# Altium schematic symbol library Atmel_By_element14_Batch_1-00.SCHLIB: 346 symbols (part 2 of 5)
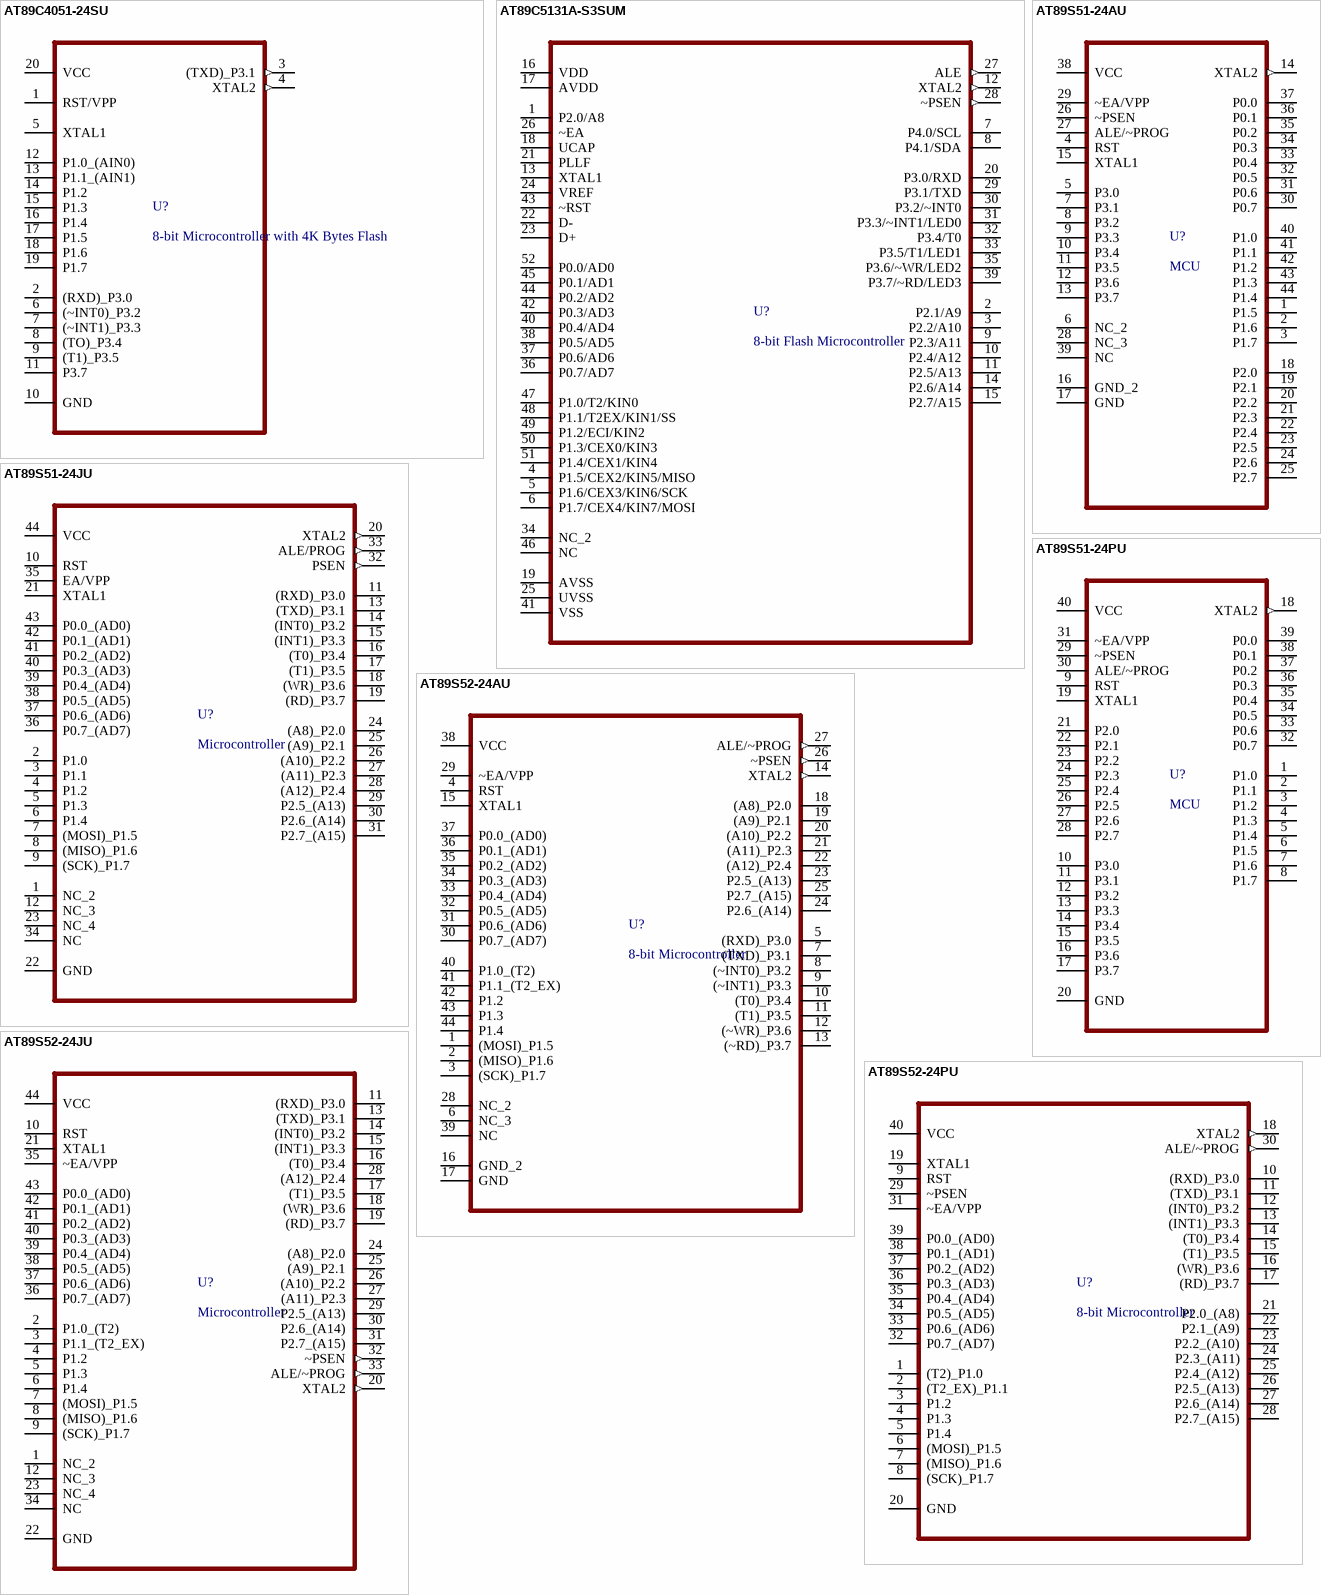
[diagram p47: symbols AT89C4051-24SU to AT89S52-24PU]

## AT89S52-24PU
designator U?, comment 8-bit Microcontroller
MPN: AT89S52-24PU; OC_FARNELL: 1095743; OC_NEWARK: 96K6580; PACKAGE: DIP-40; SUPPLIER: Atmel
footprint DIP254P1524X482-40
pins: 1 (T2)_P1.0, 2 (T2_EX)_P1.1, 3 P1.2, 4 P1.3, 5 P1.4, 6 (MOSI)_P1.5, 7 (MISO)_P1.6, 8 (SCK)_P1.7, 9 RST, 10 (RXD)_P3.0, 11 (TXD)_P3.1, 12 (INT0)_P3.2, 13 (INT1)_P3.3, 14 (T0)_P3.4, 15 (T1)_P3.5, 16 (WR)_P3.6, 17 (RD)_P3.7, 18 XTAL2 (out), 19 XTAL1, 20 GND, 21 P2.0_(A8), 22 P2.1_(A9), 23 P2.2_(A10), 24 P2.3_(A11), 25 P2.4_(A12), 26 P2.5_(A13), 27 P2.6_(A14), 28 P2.7_(A15), 29 ~PSEN, 30 ALE/~PROG (out), 31 ~EA/VPP, 32 P0.7_(AD7), 33 P0.6_(AD6), 34 P0.5_(AD5), 35 P0.4_(AD4), 36 P0.3_(AD3), 37 P0.2_(AD2), 38 P0.1_(AD1), 39 P0.0_(AD0), 40 VCC (power)

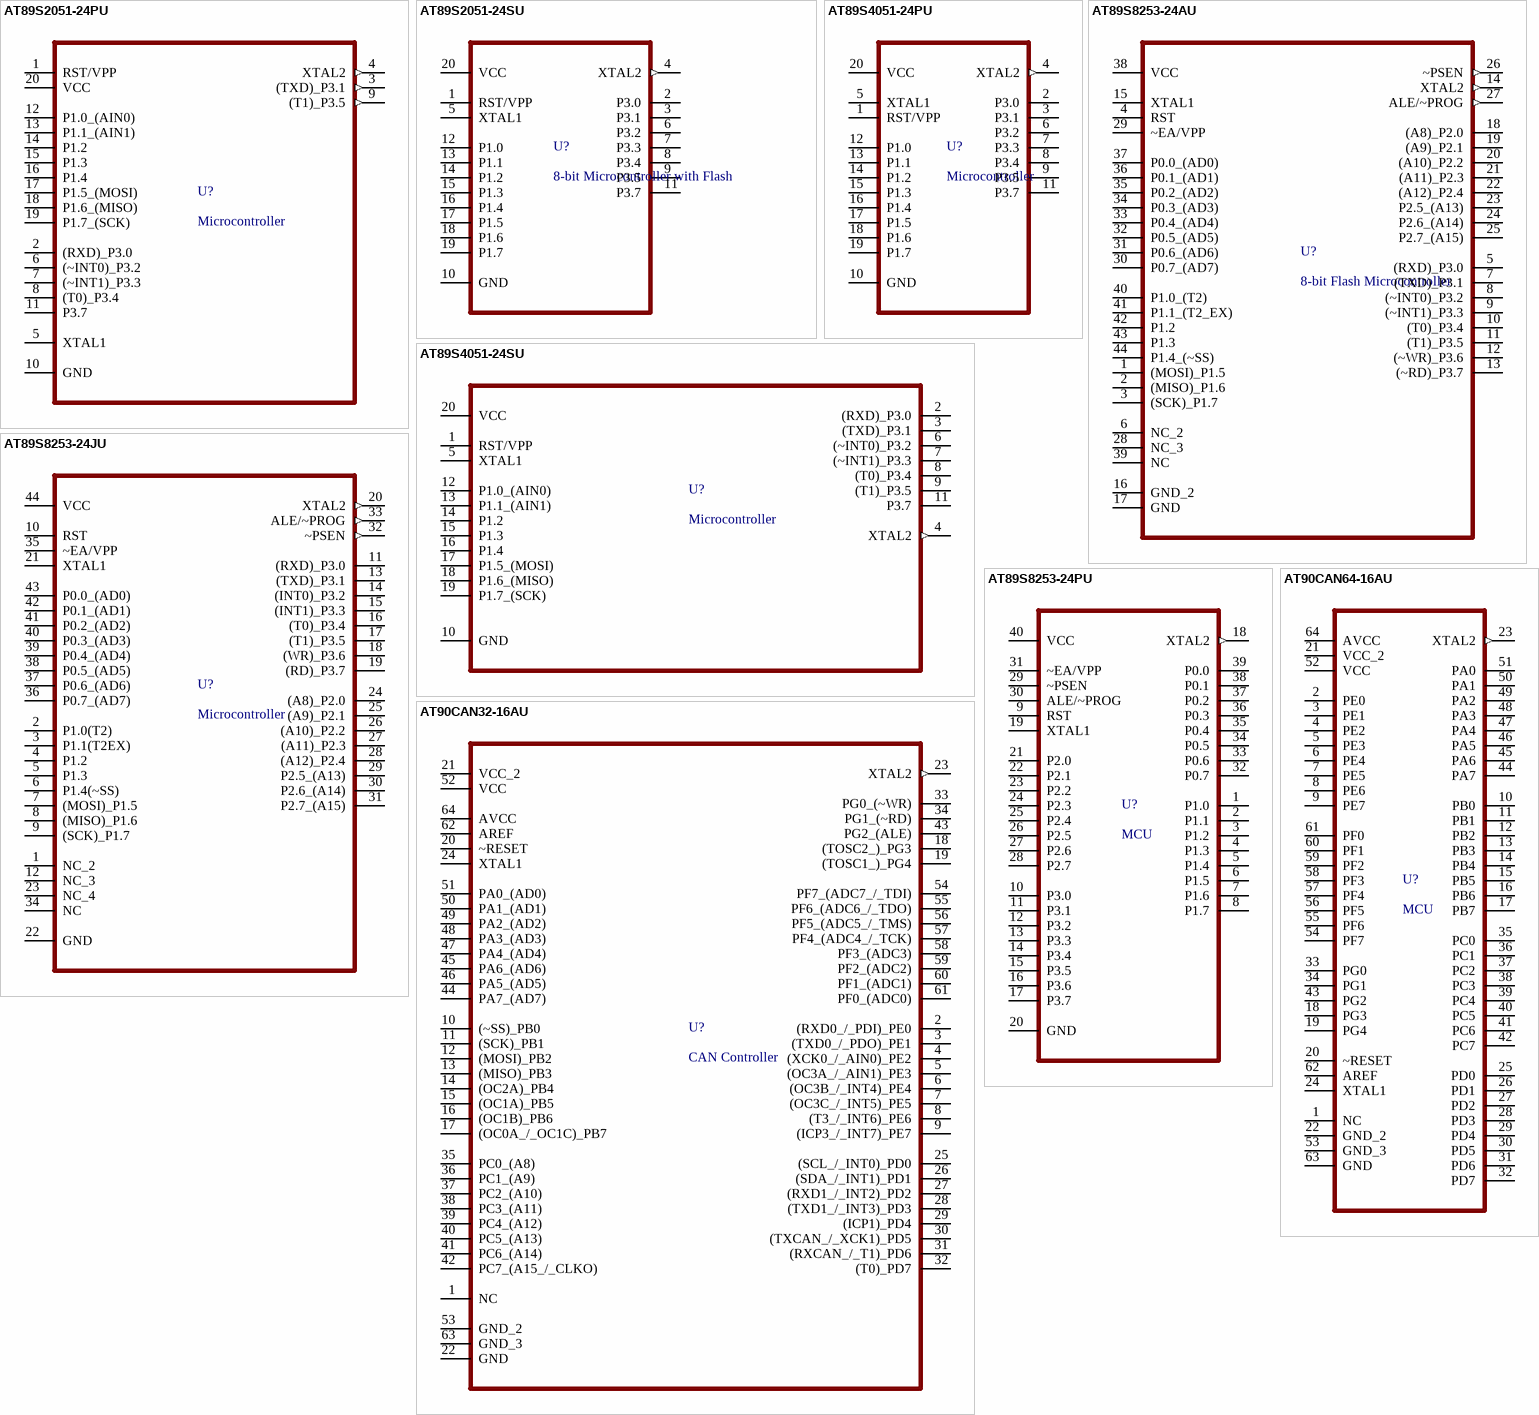
[diagram p9: symbols AT89S2051-24PU to AT90CAN64-16AU]

## AT89S2051-24PU
designator U?, comment Microcontroller
MPN: AT89S2051-24PU; OC_FARNELL: 1095734; OC_NEWARK: 96K6573; PACKAGE: PDIP-20; SUPPLIER: ATMEL
footprint DIP254P762X533-20
pins: 1 RST/VPP (power), 2 (RXD)_P3.0, 3 (TXD)_P3.1 (out), 4 XTAL2 (out), 5 XTAL1, 6 (~INT0)_P3.2, 7 (~INT1)_P3.3, 8 (T0)_P3.4, 9 (T1)_P3.5 (out), 10 GND, 11 P3.7, 12 P1.0_(AIN0), 13 P1.1_(AIN1), 14 P1.2, 15 P1.3, 16 P1.4, 17 P1.5_(MOSI), 18 P1.6_(MISO), 19 P1.7_(SCK), 20 VCC (power)

## AT89S2051-24SU
designator U?, comment 8-bit Microcontroller with Flash
MPN: AT89S2051-24SU; OC_FARNELL: 1095735; OC_NEWARK: 96K6574; PACKAGE: SOIC-20; SUPPLIER: Atmel
footprint SOIC127P1032X265-20N
pins: 1 RST/VPP, 2 P3.0, 3 P3.1, 4 XTAL2 (out), 5 XTAL1, 6 P3.2, 7 P3.3, 8 P3.4, 9 P3.5, 10 GND, 11 P3.7, 12 P1.0, 13 P1.1, 14 P1.2, 15 P1.3, 16 P1.4, 17 P1.5, 18 P1.6, 19 P1.7, 20 VCC (power)

## AT89S4051-24PU
designator U?, comment Microcontroller
MPN: AT89S4051-24PU; OC_FARNELL: 1095736; OC_NEWARK: 96K6575; PACKAGE: DIP-20; SUPPLIER: ATMEL
footprint DIP254P762X533-20
pins: 1 RST/VPP, 2 P3.0, 3 P3.1, 4 XTAL2 (out), 5 XTAL1, 6 P3.2, 7 P3.3, 8 P3.4, 9 P3.5, 10 GND, 11 P3.7, 12 P1.0, 13 P1.1, 14 P1.2, 15 P1.3, 16 P1.4, 17 P1.5, 18 P1.6, 19 P1.7, 20 VCC (power)

## AT89S4051-24SU
designator U?, comment Microcontroller
MPN: AT89S4051-24SU; OC_FARNELL: 1095737; OC_NEWARK: 96K6576; PACKAGE: SOIC-20; SUPPLIER: ATMEL
footprint SOIC127P1032X265-20N
pins: 1 RST/VPP (power), 2 (RXD)_P3.0, 3 (TXD)_P3.1, 4 XTAL2 (out), 5 XTAL1, 6 (~INT0)_P3.2, 7 (~INT1)_P3.3, 8 (T0)_P3.4, 9 (T1)_P3.5, 10 GND, 11 P3.7, 12 P1.0_(AIN0), 13 P1.1_(AIN1), 14 P1.2, 15 P1.3, 16 P1.4, 17 P1.5_(MOSI), 18 P1.6_(MISO), 19 P1.7_(SCK), 20 VCC (power)

## AT89S8253-24AU
designator U?, comment 8-bit Flash Microcontroller
MPN: AT89S8253-24AU; OC_FARNELL: 1095744; OC_NEWARK: 74K4052; PACKAGE: VQFP-44; SUPPLIER: ATMEL
footprint QFP80P1200X1200X120-44N
pins: 1 (MOSI)_P1.5, 2 (MISO)_P1.6, 3 (SCK)_P1.7, 4 RST, 5 (RXD)_P3.0, 6 NC_2, 7 (TXD)_P3.1, 8 (~INT0)_P3.2, 9 (~INT1)_P3.3, 10 (T0)_P3.4, 11 (T1)_P3.5, 12 (~WR)_P3.6, 13 (~RD)_P3.7, 14 XTAL2 (out), 15 XTAL1, 16 GND_2, 17 GND, 18 (A8)_P2.0, 19 (A9)_P2.1, 20 (A10)_P2.2, 21 (A11)_P2.3, 22 (A12)_P2.4, 23 P2.5_(A13), 24 P2.6_(A14), 25 P2.7_(A15), 26 ~PSEN (out), 27 ALE/~PROG (out), 28 NC_3, 29 ~EA/VPP, 30 P0.7_(AD7), 31 P0.6_(AD6), 32 P0.5_(AD5), 33 P0.4_(AD4), 34 P0.3_(AD3), 35 P0.2_(AD2), 36 P0.1_(AD1), 37 P0.0_(AD0), 38 VCC (power), 39 NC, 40 P1.0_(T2), 41 P1.1_(T2_EX), 42 P1.2, 43 P1.3, 44 P1.4_(~SS)

## AT89S8253-24JU
designator U?, comment Microcontroller
MPN: AT89S8253-24JU; OC_FARNELL: 1095745; OC_NEWARK: 96K6581; PACKAGE: PLCC-44; SUPPLIER: ATMEL
footprint PLCC127P1752X1752X457-44N
pins: 1 NC_2, 2 P1.0(T2), 3 P1.1(T2EX), 4 P1.2, 5 P1.3, 6 P1.4(~SS), 7 (MOSI)_P1.5, 8 (MISO)_P1.6, 9 (SCK)_P1.7, 10 RST, 11 (RXD)_P3.0, 12 NC_3, 13 (TXD)_P3.1, 14 (INT0)_P3.2, 15 (INT1)_P3.3, 16 (T0)_P3.4, 17 (T1)_P3.5, 18 (WR)_P3.6, 19 (RD)_P3.7, 20 XTAL2 (out), 21 XTAL1, 22 GND, 23 NC_4, 24 (A8)_P2.0, 25 (A9)_P2.1, 26 (A10)_P2.2, 27 (A11)_P2.3, 28 (A12)_P2.4, 29 P2.5_(A13), 30 P2.6_(A14), 31 P2.7_(A15), 32 ~PSEN (out), 33 ALE/~PROG (out), 34 NC, 35 ~EA/VPP, 36 P0.7_(AD7), 37 P0.6_(AD6), 38 P0.5_(AD5), 39 P0.4_(AD4), 40 P0.3_(AD3), 41 P0.2_(AD2), 42 P0.1_(AD1), 43 P0.0_(AD0), 44 VCC (power)

## AT89S8253-24PU
designator U?, comment MCU
MPN: AT89S8253-24PU; OC_FARNELL: 1095746; OC_NEWARK: 96K6582; PACKAGE: DIP-40; SUPPLIER: Atmel
footprint DIP254P1524X482-40
pins: 1 P1.0, 2 P1.1, 3 P1.2, 4 P1.3, 5 P1.4, 6 P1.5, 7 P1.6, 8 P1.7, 9 RST, 10 P3.0, 11 P3.1, 12 P3.2, 13 P3.3, 14 P3.4, 15 P3.5, 16 P3.6, 17 P3.7, 18 XTAL2 (out), 19 XTAL1, 20 GND, 21 P2.0, 22 P2.1, 23 P2.2, 24 P2.3, 25 P2.4, 26 P2.5, 27 P2.6, 28 P2.7, 29 ~PSEN, 30 ALE/~PROG, 31 ~EA/VPP, 32 P0.7, 33 P0.6, 34 P0.5, 35 P0.4, 36 P0.3, 37 P0.2, 38 P0.1, 39 P0.0, 40 VCC (power)

## AT90CAN32-16AU
designator U?, comment CAN Controller
MPN: AT90CAN32-16AU; OC_FARNELL: 1455066; OC_NEWARK: 58M3861; PACKAGE: TQFP-64; SUPPLIER: Atmel
footprint QFP80P1600X1600X120-64N
pins: 1 NC, 2 (RXD0_/_PDI)_PE0, 3 (TXD0_/_PDO)_PE1, 4 (XCK0_/_AIN0)_PE2, 5 (OC3A_/_AIN1)_PE3, 6 (OC3B_/_INT4)_PE4, 7 (OC3C_/_INT5)_PE5, 8 (T3_/_INT6)_PE6, 9 (ICP3_/_INT7)_PE7, 10 (~SS)_PB0, 11 (SCK)_PB1, 12 (MOSI)_PB2, 13 (MISO)_PB3, 14 (OC2A)_PB4, 15 (OC1A)_PB5, 16 (OC1B)_PB6, 17 (OC0A_/_OC1C)_PB7, 18 (TOSC2_)_PG3, 19 (TOSC1_)_PG4, 20 ~RESET, 21 VCC_2 (power), 22 GND, 23 XTAL2 (out), 24 XTAL1, 25 (SCL_/_INT0)_PD0, 26 (SDA_/_INT1)_PD1, 27 (RXD1_/_INT2)_PD2, 28 (TXD1_/_INT3)_PD3, 29 (ICP1)_PD4, 30 (TXCAN_/_XCK1)_PD5, 31 (RXCAN_/_T1)_PD6, 32 (T0)_PD7, 33 PG0_(~WR), 34 PG1_(~RD), 35 PC0_(A8), 36 PC1_(A9), 37 PC2_(A10), 38 PC3_(A11), 39 PC4_(A12), 40 PC5_(A13), 41 PC6_(A14), 42 PC7_(A15_/_CLKO), 43 PG2_(ALE), 44 PA7_(AD7), 45 PA6_(AD6), 46 PA5_(AD5), 47 PA4_(AD4), 48 PA3_(AD3), 49 PA2_(AD2), 50 PA1_(AD1), 51 PA0_(AD0), 52 VCC (power), 53 GND_2, 54 PF7_(ADC7_/_TDI), 55 PF6_(ADC6_/_TDO), 56 PF5_(ADC5_/_TMS), 57 PF4_(ADC4_/_TCK), 58 PF3_(ADC3), 59 PF2_(ADC2), 60 PF1_(ADC1), 61 PF0_(ADC0), 62 AREF, 63 GND_3, 64 AVCC (power)

## AT90CAN64-16AU
designator U?, comment MCU
MPN: AT90CAN64-16AU; OC_FARNELL: 1455067; OC_NEWARK: 58M3862; PACKAGE: QFP-64; SUPPLIER: Atmel
footprint QFP80P1600X1600X120-64N
pins: 1 NC, 2 PE0, 3 PE1, 4 PE2, 5 PE3, 6 PE4, 7 PE5, 8 PE6, 9 PE7, 10 PB0, 11 PB1, 12 PB2, 13 PB3, 14 PB4, 15 PB5, 16 PB6, 17 PB7, 18 PG3, 19 PG4, 20 ~RESET, 21 VCC_2 (power), 22 GND_2, 23 XTAL2 (out), 24 XTAL1, 25 PD0, 26 PD1, 27 PD2, 28 PD3, 29 PD4, 30 PD5, 31 PD6, 32 PD7, 33 PG0, 34 PG1, 35 PC0, 36 PC1, 37 PC2, 38 PC3, 39 PC4, 40 PC5, 41 PC6, 42 PC7, 43 PG2, 44 PA7, 45 PA6, 46 PA5, 47 PA4, 48 PA3, 49 PA2, 50 PA1, 51 PA0, 52 VCC (power), 53 GND_3, 54 PF7, 55 PF6, 56 PF5, 57 PF4, 58 PF3, 59 PF2, 60 PF1, 61 PF0, 62 AREF, 63 GND, 64 AVCC (power)

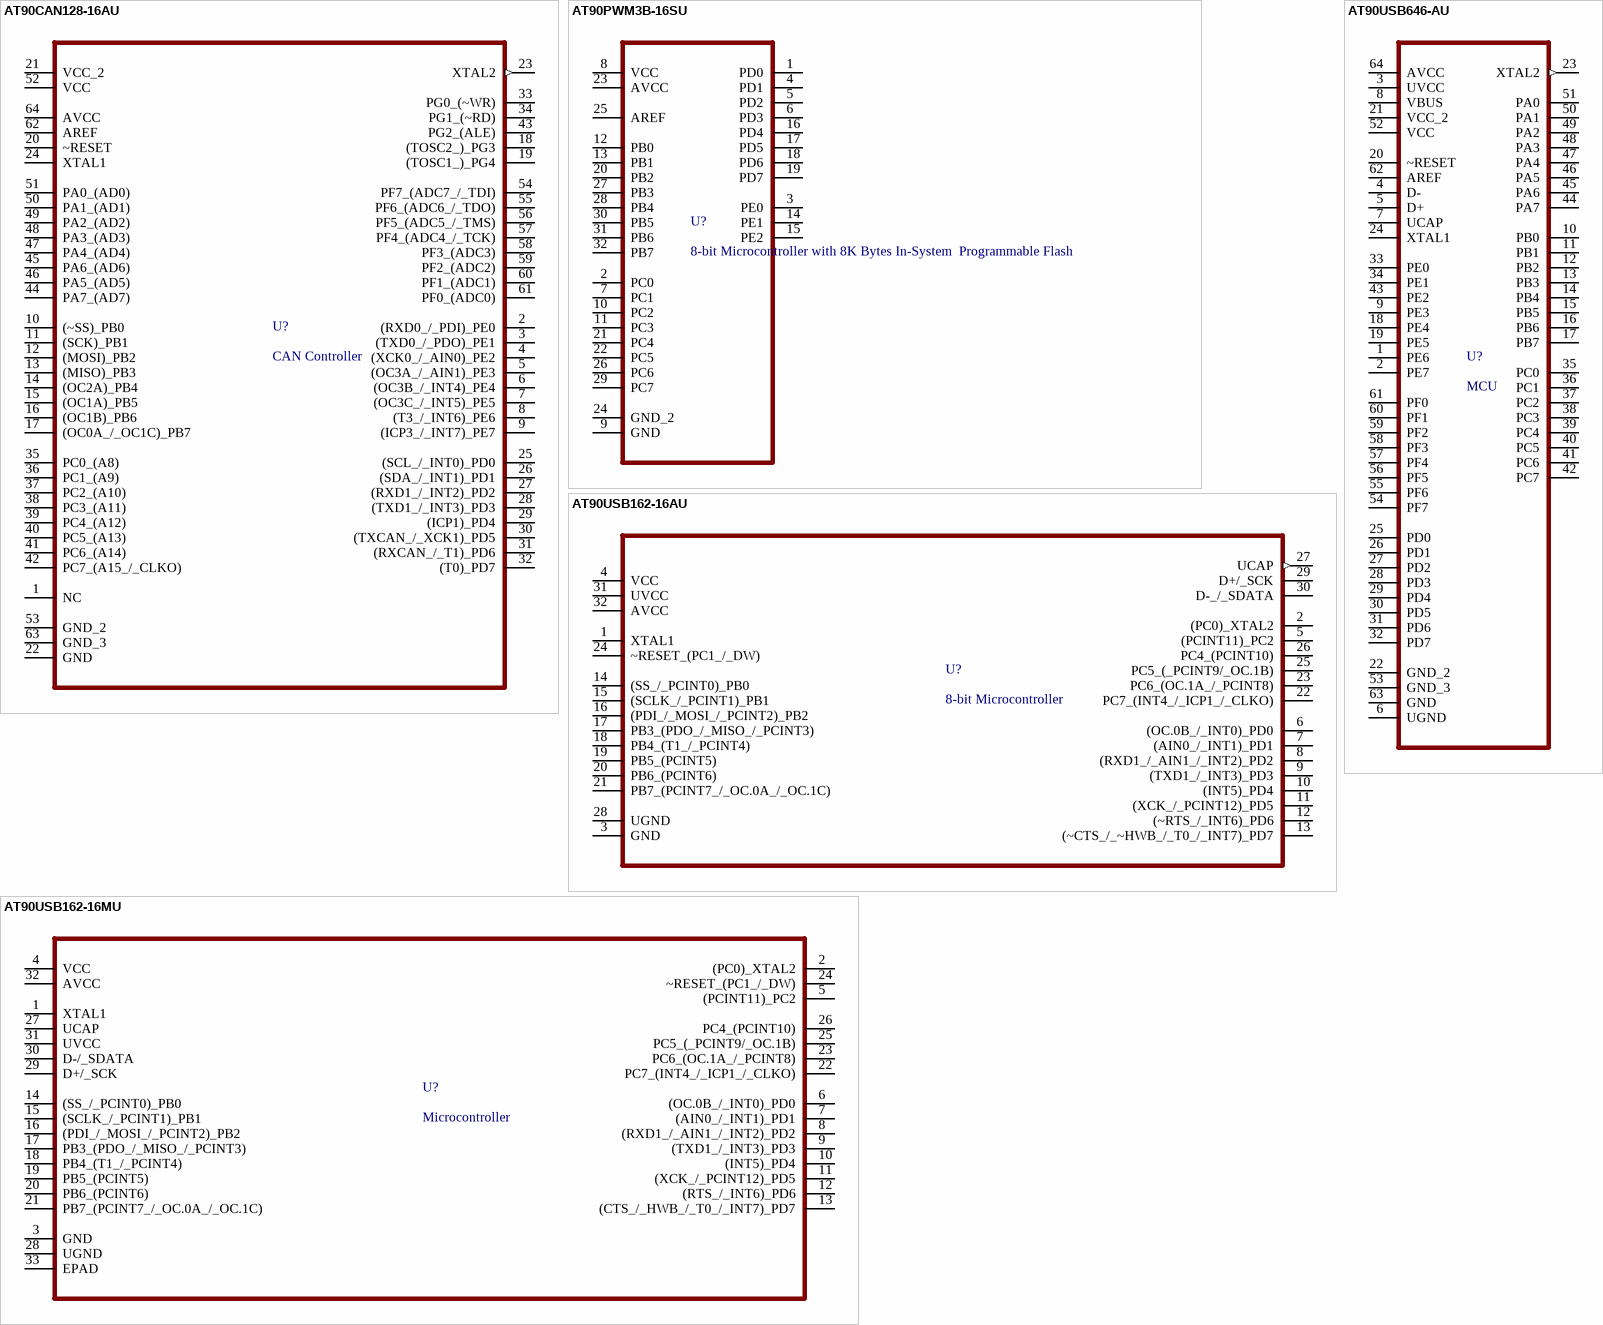
[diagram p10: symbols AT90CAN128-16AU to AT90USB646-AU]

## AT90CAN128-16AU
designator U?, comment CAN Controller
MPN: AT90CAN128-16AU; OC_FARNELL: 1455065; OC_NEWARK: 58M3860; PACKAGE: TQFP-64; SUPPLIER: Atmel
footprint QFP80P1600X1600X120-64N
pins: 1 NC, 2 (RXD0_/_PDI)_PE0, 3 (TXD0_/_PDO)_PE1, 4 (XCK0_/_AIN0)_PE2, 5 (OC3A_/_AIN1)_PE3, 6 (OC3B_/_INT4)_PE4, 7 (OC3C_/_INT5)_PE5, 8 (T3_/_INT6)_PE6, 9 (ICP3_/_INT7)_PE7, 10 (~SS)_PB0, 11 (SCK)_PB1, 12 (MOSI)_PB2, 13 (MISO)_PB3, 14 (OC2A)_PB4, 15 (OC1A)_PB5, 16 (OC1B)_PB6, 17 (OC0A_/_OC1C)_PB7, 18 (TOSC2_)_PG3, 19 (TOSC1_)_PG4, 20 ~RESET, 21 VCC_2 (power), 22 GND, 23 XTAL2 (out), 24 XTAL1, 25 (SCL_/_INT0)_PD0, 26 (SDA_/_INT1)_PD1, 27 (RXD1_/_INT2)_PD2, 28 (TXD1_/_INT3)_PD3, 29 (ICP1)_PD4, 30 (TXCAN_/_XCK1)_PD5, 31 (RXCAN_/_T1)_PD6, 32 (T0)_PD7, 33 PG0_(~WR), 34 PG1_(~RD), 35 PC0_(A8), 36 PC1_(A9), 37 PC2_(A10), 38 PC3_(A11), 39 PC4_(A12), 40 PC5_(A13), 41 PC6_(A14), 42 PC7_(A15_/_CLKO), 43 PG2_(ALE), 44 PA7_(AD7), 45 PA6_(AD6), 46 PA5_(AD5), 47 PA4_(AD4), 48 PA3_(AD3), 49 PA2_(AD2), 50 PA1_(AD1), 51 PA0_(AD0), 52 VCC (power), 53 GND_2, 54 PF7_(ADC7_/_TDI), 55 PF6_(ADC6_/_TDO), 56 PF5_(ADC5_/_TMS), 57 PF4_(ADC4_/_TCK), 58 PF3_(ADC3), 59 PF2_(ADC2), 60 PF1_(ADC1), 61 PF0_(ADC0), 62 AREF, 63 GND_3, 64 AVCC (power)

## AT90PWM3B-16SU
designator U?, comment 8-bit Microcontroller with 8K Bytes In-System  Programmable Flash
MPN: AT90PWM3B-16SU; OC_FARNELL: 1455069; OC_NEWARK: 58M3864; PACKAGE: SOIC-32; SUPPLIER: Atmel
footprint SOIC127P1047X254-32N
pins: 1 PD0, 2 PC0, 3 PE0, 4 PD1, 5 PD2, 6 PD3, 7 PC1, 8 VCC (power), 9 GND, 10 PC2, 11 PC3, 12 PB0, 13 PB1, 14 PE1, 15 PE2, 16 PD4, 17 PD5, 18 PD6, 19 PD7, 20 PB2, 21 PC4, 22 PC5, 23 AVCC (power), 24 GND_2, 25 AREF, 26 PC6, 27 PB3, 28 PB4, 29 PC7, 30 PB5, 31 PB6, 32 PB7

## AT90USB162-16AU
designator U?, comment 8-bit Microcontroller
MPN: AT90USB162-16AU; OC_FARNELL: 1455073; OC_NEWARK: 58M3868; PACKAGE: TQFP-32; SUPPLIER: Atmel
footprint QFP80P900X900X120-32N
pins: 1 XTAL1, 2 (PC0)_XTAL2, 3 GND, 4 VCC (power), 5 (PCINT11)_PC2, 6 (OC.0B_/_INT0)_PD0, 7 (AIN0_/_INT1)_PD1, 8 (RXD1_/_AIN1_/_INT2)_PD2, 9 (TXD1_/_INT3)_PD3, 10 (INT5)_PD4, 11 (XCK_/_PCINT12)_PD5, 12 (~RTS_/_INT6)_PD6, 13 (~CTS_/_~HWB_/_T0_/_INT7)_PD7, 14 (SS_/_PCINT0)_PB0, 15 (SCLK_/_PCINT1)_PB1, 16 (PDI_/_MOSI_/_PCINT2)_PB2, 17 PB3_(PDO_/_MISO_/_PCINT3), 18 PB4_(T1_/_PCINT4), 19 PB5_(PCINT5), 20 PB6_(PCINT6), 21 PB7_(PCINT7_/_OC.0A_/_OC.1C), 22 PC7_(INT4_/_ICP1_/_CLKO), 23 PC6_(OC.1A_/_PCINT8), 24 ~RESET_(PC1_/_DW), 25 PC5_(_PCINT9/_OC.1B), 26 PC4_(PCINT10), 27 UCAP (out), 28 UGND, 29 D+/_SCK, 30 D-_/_SDATA, 31 UVCC (power), 32 AVCC (power)

## AT90USB162-16MU
designator U?, comment Microcontroller
MPN: AT90USB162-16MU; OC_FARNELL: 1455074; OC_NEWARK: 58M3869; PACKAGE: QFN-32; SUPPLIER: ATMEL
footprint QFN50P500X500X100-32N
pins: 1 XTAL1, 2 (PC0)_XTAL2, 3 GND, 4 VCC (power), 5 (PCINT11)_PC2, 6 (OC.0B_/_INT0)_PD0, 7 (AIN0_/_INT1)_PD1, 8 (RXD1_/_AIN1_/_INT2)_PD2, 9 (TXD1_/_INT3)_PD3, 10 (INT5)_PD4, 11 (XCK_/_PCINT12)_PD5, 12 (RTS_/_INT6)_PD6, 13 (CTS_/_HWB_/_T0_/_INT7)_PD7, 14 (SS_/_PCINT0)_PB0, 15 (SCLK_/_PCINT1)_PB1, 16 (PDI_/_MOSI_/_PCINT2)_PB2, 17 PB3_(PDO_/_MISO_/_PCINT3), 18 PB4_(T1_/_PCINT4), 19 PB5_(PCINT5), 20 PB6_(PCINT6), 21 PB7_(PCINT7_/_OC.0A_/_OC.1C), 22 PC7_(INT4_/_ICP1_/_CLKO), 23 PC6_(OC.1A_/_PCINT8), 24 ~RESET_(PC1_/_DW), 25 PC5_(_PCINT9/_OC.1B), 26 PC4_(PCINT10), 27 UCAP, 28 UGND, 29 D+/_SCK, 30 D-/_SDATA, 31 UVCC (power), 32 AVCC (power), 33 EPAD

## AT90USB646-AU
designator U?, comment MCU
MPN: AT90USB646-AU; OC_FARNELL: 1748497; OC_NEWARK: 26R5677; PACKAGE: QFP-64; SUPPLIER: Atmel
footprint QFP80P1600X1600X120-64N
pins: 1 PE6, 2 PE7, 3 UVCC (power), 4 D-, 5 D+, 6 UGND, 7 UCAP, 8 VBUS (power), 9 PE3, 10 PB0, 11 PB1, 12 PB2, 13 PB3, 14 PB4, 15 PB5, 16 PB6, 17 PB7, 18 PE4, 19 PE5, 20 ~RESET, 21 VCC_2 (power), 22 GND_2, 23 XTAL2 (out), 24 XTAL1, 25 PD0, 26 PD1, 27 PD2, 28 PD3, 29 PD4, 30 PD5, 31 PD6, 32 PD7, 33 PE0, 34 PE1, 35 PC0, 36 PC1, 37 PC2, 38 PC3, 39 PC4, 40 PC5, 41 PC6, 42 PC7, 43 PE2, 44 PA7, 45 PA6, 46 PA5, 47 PA4, 48 PA3, 49 PA2, 50 PA1, 51 PA0, 52 VCC (power), 53 GND_3, 54 PF7, 55 PF6, 56 PF5, 57 PF4, 58 PF3, 59 PF2, 60 PF1, 61 PF0, 62 AREF, 63 GND, 64 AVCC (power)

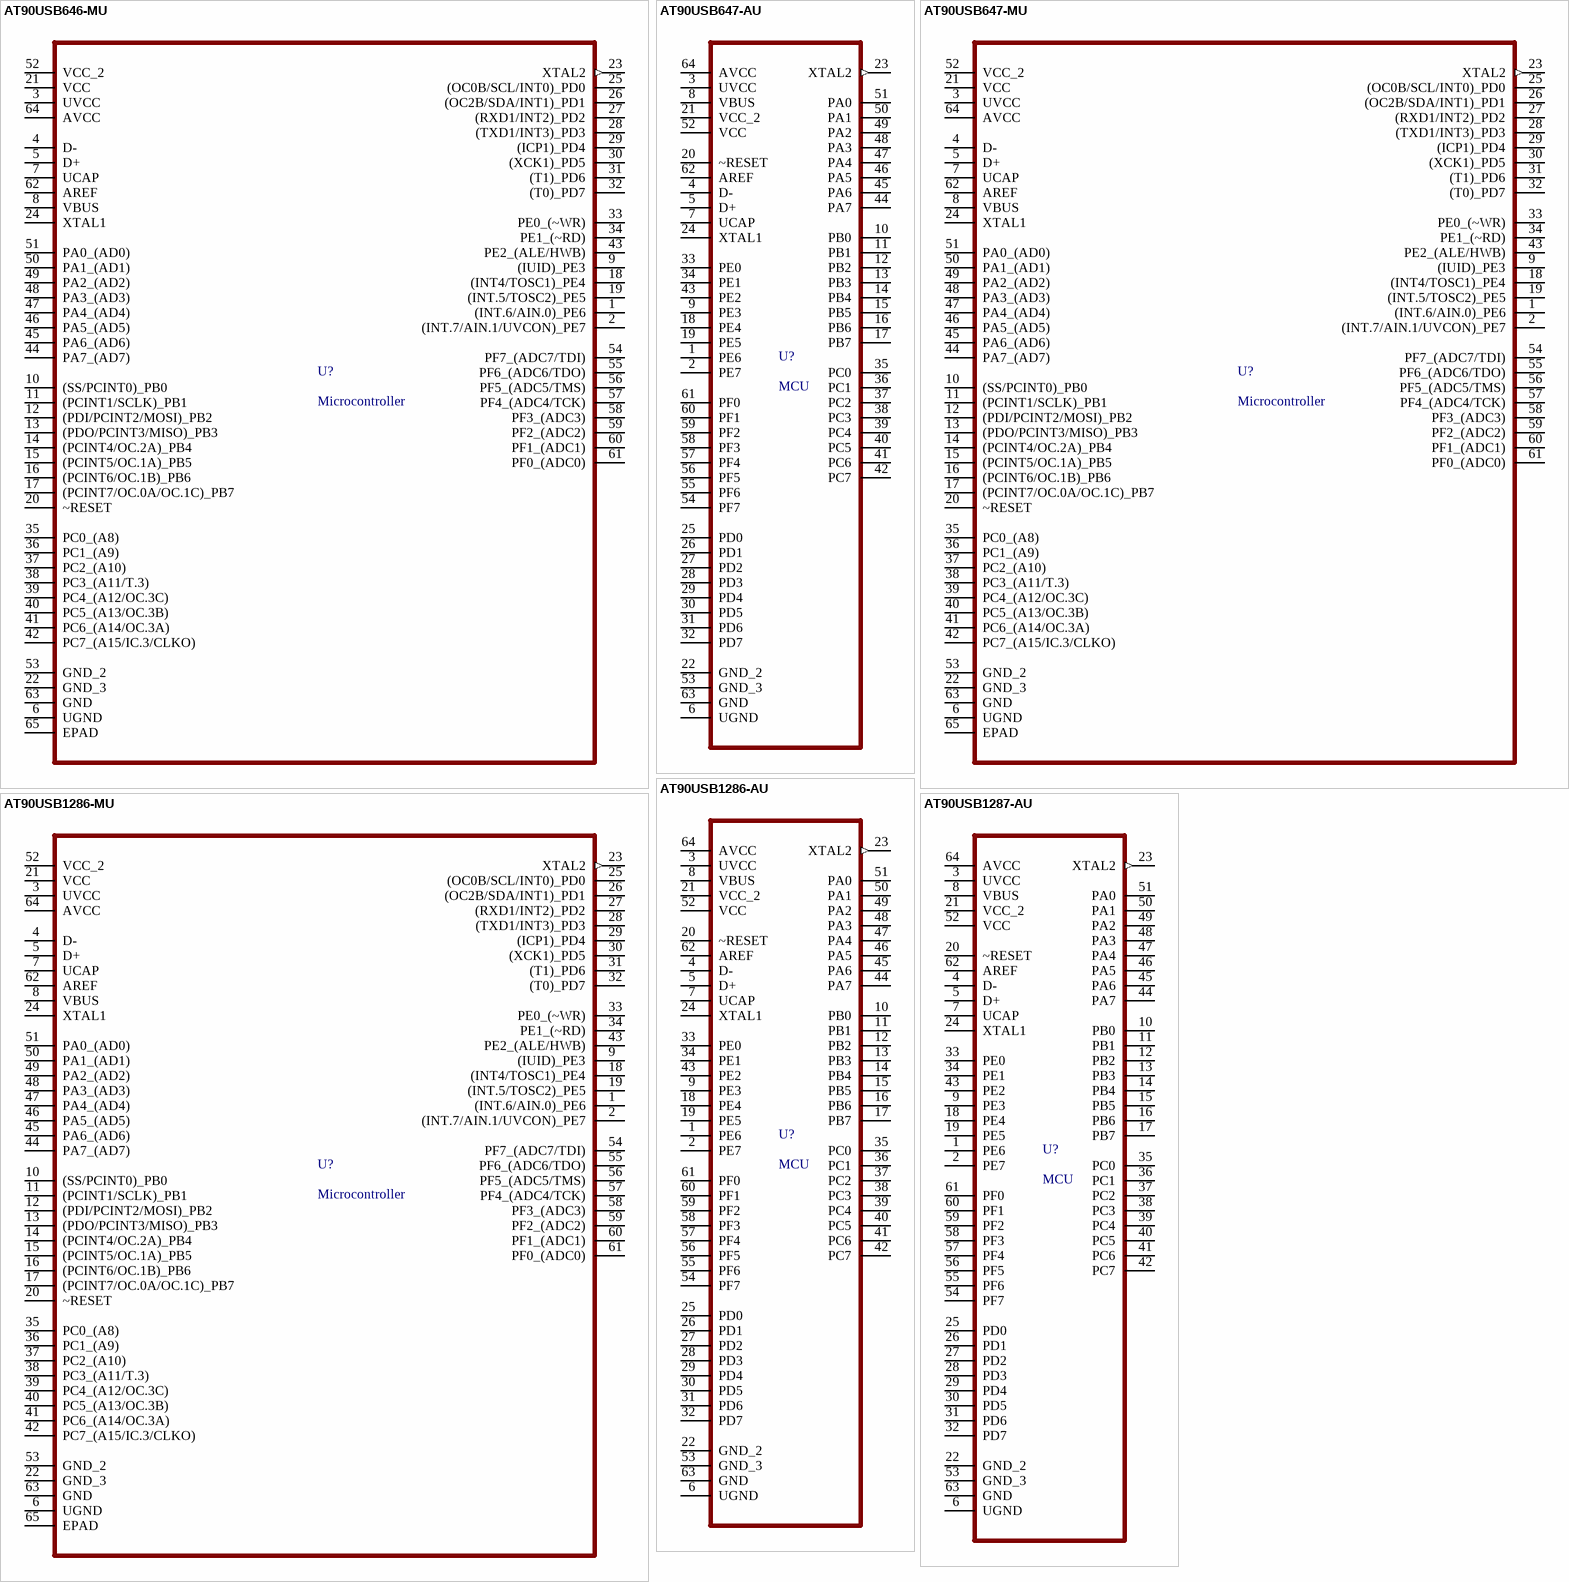
[diagram p11: symbols AT90USB646-MU to AT90USB1287-AU]

## AT90USB646-MU
designator U?, comment Microcontroller
MPN: AT90USB646-MU; OC_FARNELL: 1841599; OC_NEWARK: 12T1385; PACKAGE: QFN-64; SUPPLIER: ATMEL
footprint QFN50P900X900X100-64N
pins: 1 (INT.6/AIN.0)_PE6, 2 (INT.7/AIN.1/UVCON)_PE7, 3 UVCC (power), 4 D-, 5 D+, 6 UGND, 7 UCAP, 8 VBUS, 9 (IUID)_PE3, 10 (SS/PCINT0)_PB0, 11 (PCINT1/SCLK)_PB1, 12 (PDI/PCINT2/MOSI)_PB2, 13 (PDO/PCINT3/MISO)_PB3, 14 (PCINT4/OC.2A)_PB4, 15 (PCINT5/OC.1A)_PB5, 16 (PCINT6/OC.1B)_PB6, 17 (PCINT7/OC.0A/OC.1C)_PB7, 18 (INT4/TOSC1)_PE4, 19 (INT.5/TOSC2)_PE5, 20 ~RESET, 21 VCC (power), 22 GND_3, 23 XTAL2 (out), 24 XTAL1, 25 (OC0B/SCL/INT0)_PD0, 26 (OC2B/SDA/INT1)_PD1, 27 (RXD1/INT2)_PD2, 28 (TXD1/INT3)_PD3, 29 (ICP1)_PD4, 30 (XCK1)_PD5, 31 (T1)_PD6, 32 (T0)_PD7, 33 PE0_(~WR), 34 PE1_(~RD), 35 PC0_(A8), 36 PC1_(A9), 37 PC2_(A10), 38 PC3_(A11/T.3), 39 PC4_(A12/OC.3C), 40 PC5_(A13/OC.3B), 41 PC6_(A14/OC.3A), 42 PC7_(A15/IC.3/CLKO), 43 PE2_(ALE/HWB), 44 PA7_(AD7), 45 PA6_(AD6), 46 PA5_(AD5), 47 PA4_(AD4), 48 PA3_(AD3), 49 PA2_(AD2), 50 PA1_(AD1), 51 PA0_(AD0), 52 VCC_2 (power), 53 GND_2, 54 PF7_(ADC7/TDI), 55 PF6_(ADC6/TDO), 56 PF5_(ADC5/TMS), 57 PF4_(ADC4/TCK), 58 PF3_(ADC3), 59 PF2_(ADC2), 60 PF1_(ADC1), 61 PF0_(ADC0), 62 AREF, 63 GND, 64 AVCC (power), 65 EPAD

## AT90USB647-AU
designator U?, comment MCU
MPN: AT90USB647-AU; OC_FARNELL: 1748498; OC_NEWARK: 26R5678; PACKAGE: QFP-64; SUPPLIER: Atmel
footprint QFP80P1600X1600X120-64N
pins: 1 PE6, 2 PE7, 3 UVCC (power), 4 D-, 5 D+, 6 UGND, 7 UCAP, 8 VBUS (power), 9 PE3, 10 PB0, 11 PB1, 12 PB2, 13 PB3, 14 PB4, 15 PB5, 16 PB6, 17 PB7, 18 PE4, 19 PE5, 20 ~RESET, 21 VCC_2 (power), 22 GND_2, 23 XTAL2 (out), 24 XTAL1, 25 PD0, 26 PD1, 27 PD2, 28 PD3, 29 PD4, 30 PD5, 31 PD6, 32 PD7, 33 PE0, 34 PE1, 35 PC0, 36 PC1, 37 PC2, 38 PC3, 39 PC4, 40 PC5, 41 PC6, 42 PC7, 43 PE2, 44 PA7, 45 PA6, 46 PA5, 47 PA4, 48 PA3, 49 PA2, 50 PA1, 51 PA0, 52 VCC (power), 53 GND_3, 54 PF7, 55 PF6, 56 PF5, 57 PF4, 58 PF3, 59 PF2, 60 PF1, 61 PF0, 62 AREF, 63 GND, 64 AVCC (power)

## AT90USB647-MU
designator U?, comment Microcontroller
MPN: AT90USB647-MU; OC_FARNELL: 1841600; OC_NEWARK: 12T1386; PACKAGE: QFN-64; SUPPLIER: ATMEL
footprint QFN50P900X900X100-64N
pins: 1 (INT.6/AIN.0)_PE6, 2 (INT.7/AIN.1/UVCON)_PE7, 3 UVCC (power), 4 D-, 5 D+, 6 UGND, 7 UCAP, 8 VBUS, 9 (IUID)_PE3, 10 (SS/PCINT0)_PB0, 11 (PCINT1/SCLK)_PB1, 12 (PDI/PCINT2/MOSI)_PB2, 13 (PDO/PCINT3/MISO)_PB3, 14 (PCINT4/OC.2A)_PB4, 15 (PCINT5/OC.1A)_PB5, 16 (PCINT6/OC.1B)_PB6, 17 (PCINT7/OC.0A/OC.1C)_PB7, 18 (INT4/TOSC1)_PE4, 19 (INT.5/TOSC2)_PE5, 20 ~RESET, 21 VCC (power), 22 GND_3, 23 XTAL2 (out), 24 XTAL1, 25 (OC0B/SCL/INT0)_PD0, 26 (OC2B/SDA/INT1)_PD1, 27 (RXD1/INT2)_PD2, 28 (TXD1/INT3)_PD3, 29 (ICP1)_PD4, 30 (XCK1)_PD5, 31 (T1)_PD6, 32 (T0)_PD7, 33 PE0_(~WR), 34 PE1_(~RD), 35 PC0_(A8), 36 PC1_(A9), 37 PC2_(A10), 38 PC3_(A11/T.3), 39 PC4_(A12/OC.3C), 40 PC5_(A13/OC.3B), 41 PC6_(A14/OC.3A), 42 PC7_(A15/IC.3/CLKO), 43 PE2_(ALE/HWB), 44 PA7_(AD7), 45 PA6_(AD6), 46 PA5_(AD5), 47 PA4_(AD4), 48 PA3_(AD3), 49 PA2_(AD2), 50 PA1_(AD1), 51 PA0_(AD0), 52 VCC_2 (power), 53 GND_2, 54 PF7_(ADC7/TDI), 55 PF6_(ADC6/TDO), 56 PF5_(ADC5/TMS), 57 PF4_(ADC4/TCK), 58 PF3_(ADC3), 59 PF2_(ADC2), 60 PF1_(ADC1), 61 PF0_(ADC0), 62 AREF, 63 GND, 64 AVCC (power), 65 EPAD

## AT90USB1286-AU
designator U?, comment MCU
MPN: AT90USB1286-AU; OC_FARNELL: 1748495; OC_NEWARK: 26R5675; PACKAGE: QFP-64; SUPPLIER: Atmel
footprint QFP80P1600X1600X120-64N
pins: 1 PE6, 2 PE7, 3 UVCC (power), 4 D-, 5 D+, 6 UGND, 7 UCAP, 8 VBUS (power), 9 PE3, 10 PB0, 11 PB1, 12 PB2, 13 PB3, 14 PB4, 15 PB5, 16 PB6, 17 PB7, 18 PE4, 19 PE5, 20 ~RESET, 21 VCC_2 (power), 22 GND_2, 23 XTAL2 (out), 24 XTAL1, 25 PD0, 26 PD1, 27 PD2, 28 PD3, 29 PD4, 30 PD5, 31 PD6, 32 PD7, 33 PE0, 34 PE1, 35 PC0, 36 PC1, 37 PC2, 38 PC3, 39 PC4, 40 PC5, 41 PC6, 42 PC7, 43 PE2, 44 PA7, 45 PA6, 46 PA5, 47 PA4, 48 PA3, 49 PA2, 50 PA1, 51 PA0, 52 VCC (power), 53 GND_3, 54 PF7, 55 PF6, 56 PF5, 57 PF4, 58 PF3, 59 PF2, 60 PF1, 61 PF0, 62 AREF, 63 GND, 64 AVCC (power)

## AT90USB1286-MU
designator U?, comment Microcontroller
MPN: AT90USB1286-MU; OC_FARNELL: 1841598; OC_NEWARK: 12T1384; PACKAGE: QFN-64; SUPPLIER: ATMEL
footprint QFN50P900X900X100-64N
pins: 1 (INT.6/AIN.0)_PE6, 2 (INT.7/AIN.1/UVCON)_PE7, 3 UVCC (power), 4 D-, 5 D+, 6 UGND, 7 UCAP, 8 VBUS, 9 (IUID)_PE3, 10 (SS/PCINT0)_PB0, 11 (PCINT1/SCLK)_PB1, 12 (PDI/PCINT2/MOSI)_PB2, 13 (PDO/PCINT3/MISO)_PB3, 14 (PCINT4/OC.2A)_PB4, 15 (PCINT5/OC.1A)_PB5, 16 (PCINT6/OC.1B)_PB6, 17 (PCINT7/OC.0A/OC.1C)_PB7, 18 (INT4/TOSC1)_PE4, 19 (INT.5/TOSC2)_PE5, 20 ~RESET, 21 VCC (power), 22 GND_3, 23 XTAL2 (out), 24 XTAL1, 25 (OC0B/SCL/INT0)_PD0, 26 (OC2B/SDA/INT1)_PD1, 27 (RXD1/INT2)_PD2, 28 (TXD1/INT3)_PD3, 29 (ICP1)_PD4, 30 (XCK1)_PD5, 31 (T1)_PD6, 32 (T0)_PD7, 33 PE0_(~WR), 34 PE1_(~RD), 35 PC0_(A8), 36 PC1_(A9), 37 PC2_(A10), 38 PC3_(A11/T.3), 39 PC4_(A12/OC.3C), 40 PC5_(A13/OC.3B), 41 PC6_(A14/OC.3A), 42 PC7_(A15/IC.3/CLKO), 43 PE2_(ALE/HWB), 44 PA7_(AD7), 45 PA6_(AD6), 46 PA5_(AD5), 47 PA4_(AD4), 48 PA3_(AD3), 49 PA2_(AD2), 50 PA1_(AD1), 51 PA0_(AD0), 52 VCC_2 (power), 53 GND_2, 54 PF7_(ADC7/TDI), 55 PF6_(ADC6/TDO), 56 PF5_(ADC5/TMS), 57 PF4_(ADC4/TCK), 58 PF3_(ADC3), 59 PF2_(ADC2), 60 PF1_(ADC1), 61 PF0_(ADC0), 62 AREF, 63 GND, 64 AVCC (power), 65 EPAD

## AT90USB1287-AU
designator U?, comment MCU
MPN: AT90USB1287-AU; OC_FARNELL: 1748496; OC_NEWARK: 26R5676; PACKAGE: QFP-64; SUPPLIER: Atmel
footprint QFP80P1600X1600X120-64N
pins: 1 PE6, 2 PE7, 3 UVCC (power), 4 D-, 5 D+, 6 UGND, 7 UCAP, 8 VBUS (power), 9 PE3, 10 PB0, 11 PB1, 12 PB2, 13 PB3, 14 PB4, 15 PB5, 16 PB6, 17 PB7, 18 PE4, 19 PE5, 20 ~RESET, 21 VCC_2 (power), 22 GND_2, 23 XTAL2 (out), 24 XTAL1, 25 PD0, 26 PD1, 27 PD2, 28 PD3, 29 PD4, 30 PD5, 31 PD6, 32 PD7, 33 PE0, 34 PE1, 35 PC0, 36 PC1, 37 PC2, 38 PC3, 39 PC4, 40 PC5, 41 PC6, 42 PC7, 43 PE2, 44 PA7, 45 PA6, 46 PA5, 47 PA4, 48 PA3, 49 PA2, 50 PA1, 51 PA0, 52 VCC (power), 53 GND_3, 54 PF7, 55 PF6, 56 PF5, 57 PF4, 58 PF3, 59 PF2, 60 PF1, 61 PF0, 62 AREF, 63 GND, 64 AVCC (power)

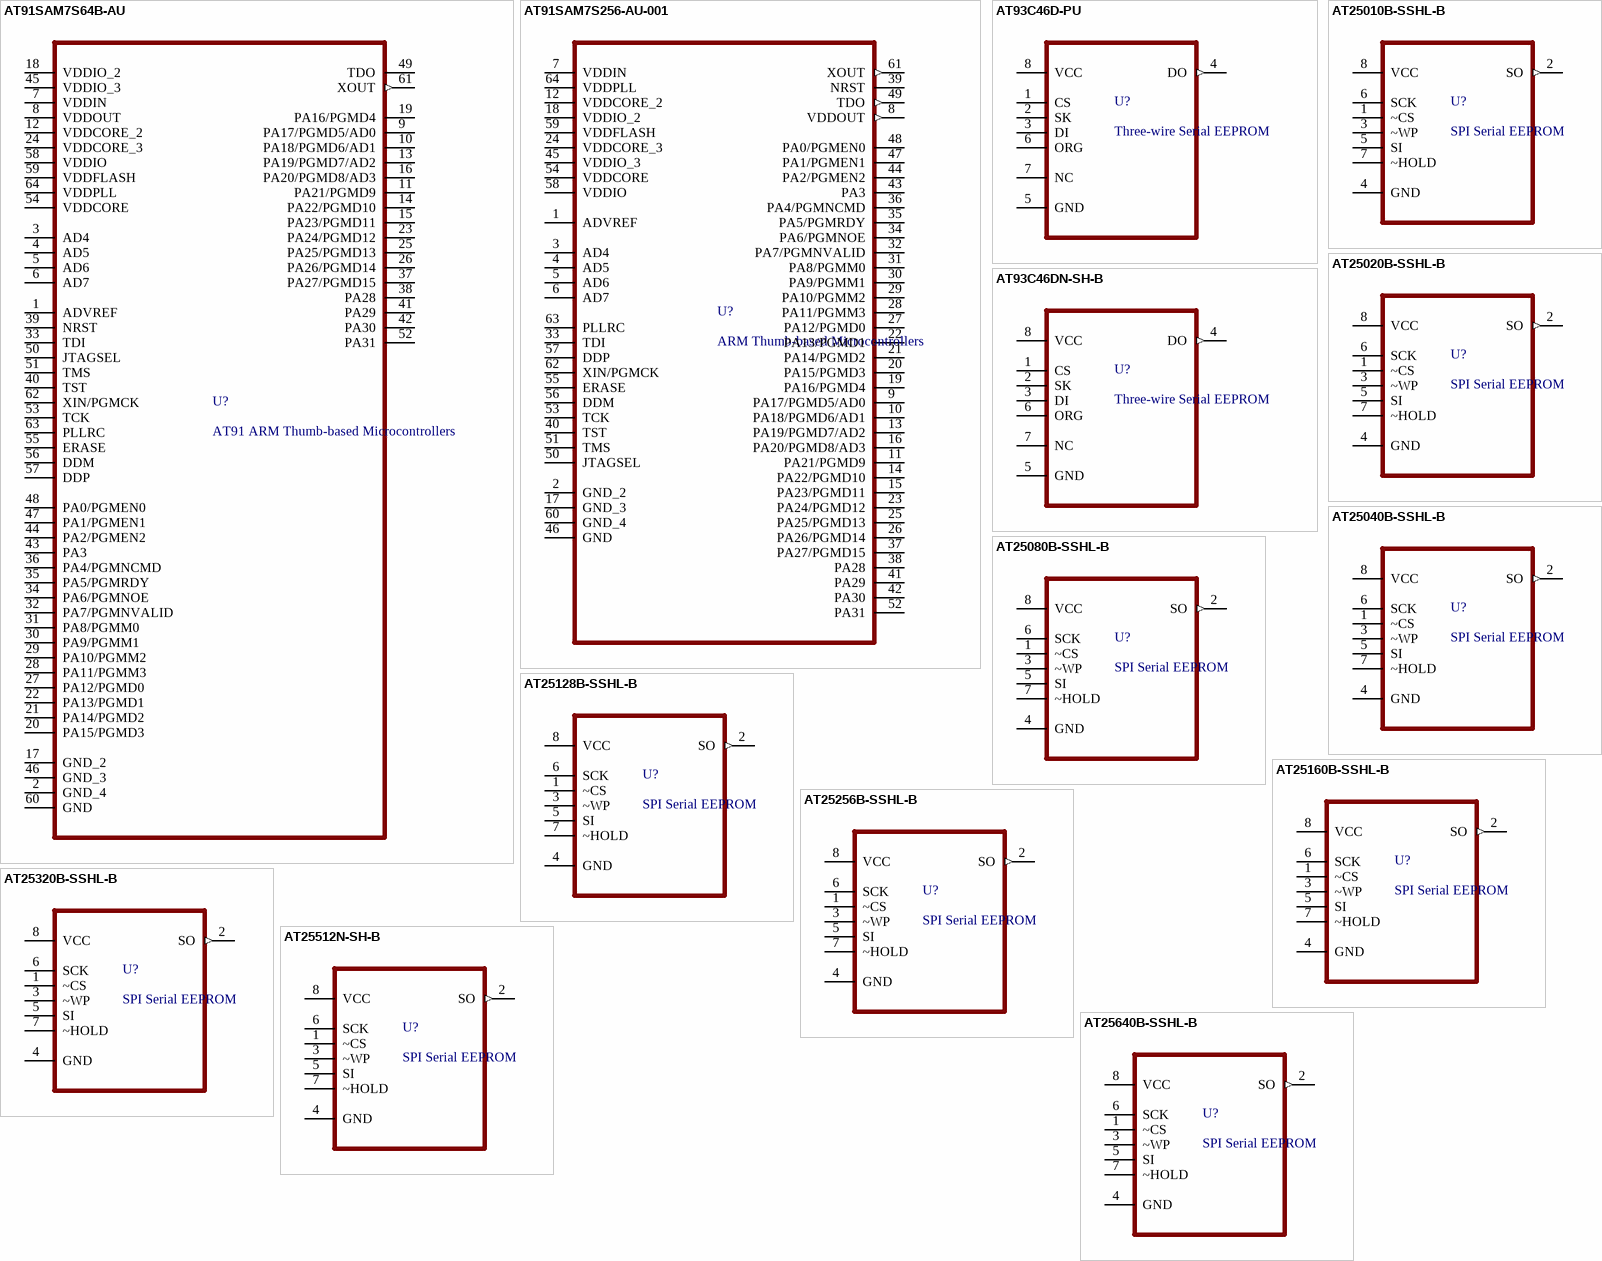
[diagram p12: symbols AT91SAM7S64B-AU to AT25640B-SSHL-B]

## AT91SAM7S64B-AU
designator U?, comment AT91 ARM Thumb-based Microcontrollers
MPN: AT91SAM7S64B-AU; OC_FARNELL: 1699393; OC_NEWARK: -; PACKAGE: QFP-64; SUPPLIER: Atmel
footprint QFP50P1200X1200X160-64N
pins: 1 ADVREF, 2 GND_4, 3 AD4, 4 AD5, 5 AD6, 6 AD7, 7 VDDIN (power), 8 VDDOUT (power), 9 PA17/PGMD5/AD0, 10 PA18/PGMD6/AD1, 11 PA21/PGMD9, 12 VDDCORE_2 (power), 13 PA19/PGMD7/AD2, 14 PA22/PGMD10, 15 PA23/PGMD11, 16 PA20/PGMD8/AD3, 17 GND_2, 18 VDDIO_2 (power), 19 PA16/PGMD4, 20 PA15/PGMD3, 21 PA14/PGMD2, 22 PA13/PGMD1, 23 PA24/PGMD12, 24 VDDCORE_3 (power), 25 PA25/PGMD13, 26 PA26/PGMD14, 27 PA12/PGMD0, 28 PA11/PGMM3, 29 PA10/PGMM2, 30 PA9/PGMM1, 31 PA8/PGMM0, 32 PA7/PGMNVALID, 33 TDI, 34 PA6/PGMNOE, 35 PA5/PGMRDY, 36 PA4/PGMNCMD, 37 PA27/PGMD15, 38 PA28, 39 NRST, 40 TST, 41 PA29, 42 PA30, 43 PA3, 44 PA2/PGMEN2, 45 VDDIO_3 (power), 46 GND_3, 47 PA1/PGMEN1, 48 PA0/PGMEN0, 49 TDO, 50 JTAGSEL, 51 TMS, 52 PA31, 53 TCK, 54 VDDCORE (power), 55 ERASE, 56 DDM, 57 DDP, 58 VDDIO (power), 59 VDDFLASH (power), 60 GND, 61 XOUT (out), 62 XIN/PGMCK, 63 PLLRC, 64 VDDPLL (power)

## AT91SAM7S256-AU-001
designator U?, comment ARM Thumb-based Microcontrollers
MPN: AT91SAM7S256-AU-001; OC_FARNELL: 1095460; OC_NEWARK: 80K7127; PACKAGE: LQFP-64; SUPPLIER: Atmel
footprint QFP50P1200X1200X160-64N
pins: 1 ADVREF, 2 GND_2, 3 AD4, 4 AD5, 5 AD6, 6 AD7, 7 VDDIN (power), 8 VDDOUT (out), 9 PA17/PGMD5/AD0, 10 PA18/PGMD6/AD1, 11 PA21/PGMD9, 12 VDDCORE_2, 13 PA19/PGMD7/AD2, 14 PA22/PGMD10, 15 PA23/PGMD11, 16 PA20/PGMD8/AD3, 17 GND_3, 18 VDDIO_2 (power), 19 PA16/PGMD4, 20 PA15/PGMD3, 21 PA14/PGMD2, 22 PA13/PGMD1, 23 PA24/PGMD12, 24 VDDCORE_3, 25 PA25/PGMD13, 26 PA26/PGMD14, 27 PA12/PGMD0, 28 PA11/PGMM3, 29 PA10/PGMM2, 30 PA9/PGMM1, 31 PA8/PGMM0, 32 PA7/PGMNVALID, 33 TDI, 34 PA6/PGMNOE, 35 PA5/PGMRDY, 36 PA4/PGMNCMD, 37 PA27/PGMD15, 38 PA28, 39 NRST, 40 TST, 41 PA29, 42 PA30, 43 PA3, 44 PA2/PGMEN2, 45 VDDIO_3 (power), 46 GND, 47 PA1/PGMEN1, 48 PA0/PGMEN0, 49 TDO (out), 50 JTAGSEL, 51 TMS, 52 PA31, 53 TCK, 54 VDDCORE, 55 ERASE, 56 DDM, 57 DDP, 58 VDDIO (power), 59 VDDFLASH (power), 60 GND_4, 61 XOUT (out), 62 XIN/PGMCK, 63 PLLRC, 64 VDDPLL (power)

## AT93C46D-PU
designator U?, comment Three-wire Serial EEPROM
MPN: AT93C46D-PU; OC_FARNELL: 1362666; OC_NEWARK: 50M3339; PACKAGE: PDIP-8; SUPPLIER: Atmel
footprint DIP254P762X533-8
pins: 1 CS, 2 SK, 3 DI, 4 DO (out), 5 GND, 6 ORG, 7 NC, 8 VCC (power)

## AT93C46DN-SH-B
designator U?, comment Three-wire Serial EEPROM
MPN: AT93C46DN-SH-B; OC_FARNELL: 1455086; OC_NEWARK: 58M3879; PACKAGE: SOIC-8; SUPPLIER: Atmel
footprint SOIC127P600X175-8N
pins: 1 CS, 2 SK, 3 DI, 4 DO (out), 5 GND, 6 ORG, 7 NC, 8 VCC (power)

## AT25010B-SSHL-B
designator U?, comment SPI Serial EEPROM
MPN: AT25010B-SSHL-B; OC_FARNELL: 1841571; OC_NEWARK: 12T1352; PACKAGE: SOIC-8; SUPPLIER: Atmel
footprint SOIC127P600X175-8N
pins: 1 ~CS, 2 SO (out), 3 ~WP, 4 GND, 5 SI, 6 SCK, 7 ~HOLD, 8 VCC (power)

## AT25020B-SSHL-B
designator U?, comment SPI Serial EEPROM
MPN: AT25020B-SSHL-B; OC_FARNELL: 1841572; OC_NEWARK: 12T1353; PACKAGE: SOIC-8; SUPPLIER: Atmel
footprint SOIC127P600X175-8N
pins: 1 ~CS, 2 SO (out), 3 ~WP, 4 GND, 5 SI, 6 SCK, 7 ~HOLD, 8 VCC (power)

## AT25040B-SSHL-B
designator U?, comment SPI Serial EEPROM
MPN: AT25040B-SSHL-B; OC_FARNELL: 1841573; OC_NEWARK: 12T1354; PACKAGE: SOIC-8; SUPPLIER: Atmel
footprint SOIC127P600X175-8N
pins: 1 ~CS, 2 SO (out), 3 ~WP, 4 GND, 5 SI, 6 SCK, 7 ~HOLD, 8 VCC (power)

## AT25080B-SSHL-B
designator U?, comment SPI Serial EEPROM
MPN: AT25080B-SSHL-B; OC_FARNELL: 1841574; OC_NEWARK: 12T1355; PACKAGE: SOIC-8; SUPPLIER: Atmel
footprint SOIC127P600X175-8N
pins: 1 ~CS, 2 SO (out), 3 ~WP, 4 GND, 5 SI, 6 SCK, 7 ~HOLD, 8 VCC (power)

## AT25128B-SSHL-B
designator U?, comment SPI Serial EEPROM
MPN: AT25128B-SSHL-B; OC_FARNELL: 1841575; OC_NEWARK: 12T1356; PACKAGE: SOIC-8; SUPPLIER: Atmel
footprint SOIC127P600X175-8N
pins: 1 ~CS, 2 SO (out), 3 ~WP, 4 GND, 5 SI, 6 SCK, 7 ~HOLD, 8 VCC (power)

## AT25160B-SSHL-B
designator U?, comment SPI Serial EEPROM
MPN: AT25160B-SSHL-B; OC_FARNELL: 1841576; OC_NEWARK: 12T1357; PACKAGE: SOIC-8; SUPPLIER: Atmel
footprint SOIC127P600X175-8N
pins: 1 ~CS, 2 SO (out), 3 ~WP, 4 GND, 5 SI, 6 SCK, 7 ~HOLD, 8 VCC (power)

## AT25256B-SSHL-B
designator U?, comment SPI Serial EEPROM
MPN: AT25256B-SSHL-B; OC_FARNELL: 1841577; OC_NEWARK: 12T1358; PACKAGE: SOIC-8; SUPPLIER: Atmel
footprint SOIC127P600X175-8N
pins: 1 ~CS, 2 SO (out), 3 ~WP, 4 GND, 5 SI, 6 SCK, 7 ~HOLD, 8 VCC (power)

## AT25320B-SSHL-B
designator U?, comment SPI Serial EEPROM
MPN: AT25320B-SSHL-B; OC_FARNELL: 1841578; OC_NEWARK: 12T1359; PACKAGE: SOIC-8; SUPPLIER: Atmel
footprint SOIC127P600X175-8N
pins: 1 ~CS, 2 SO (out), 3 ~WP, 4 GND, 5 SI, 6 SCK, 7 ~HOLD, 8 VCC (power)

## AT25512N-SH-B
designator U?, comment SPI Serial EEPROM
MPN: AT25512N-SH-B; OC_FARNELL: 1841581; OC_NEWARK: 12T1360; PACKAGE: SOIC-8; SUPPLIER: Atmel
footprint SOIC127P600X175-8N
pins: 1 ~CS, 2 SO (out), 3 ~WP, 4 GND, 5 SI, 6 SCK, 7 ~HOLD, 8 VCC (power)

## AT25640B-SSHL-B
designator U?, comment SPI Serial EEPROM
MPN: AT25640B-SSHL-B; OC_FARNELL: 1841582; OC_NEWARK: 12T1361; PACKAGE: SOIC-8; SUPPLIER: Atmel
footprint SOIC127P600X175-8N
pins: 1 ~CS, 2 SO (out), 3 ~WP, 4 GND, 5 SI, 6 SCK, 7 ~HOLD, 8 VCC (power)

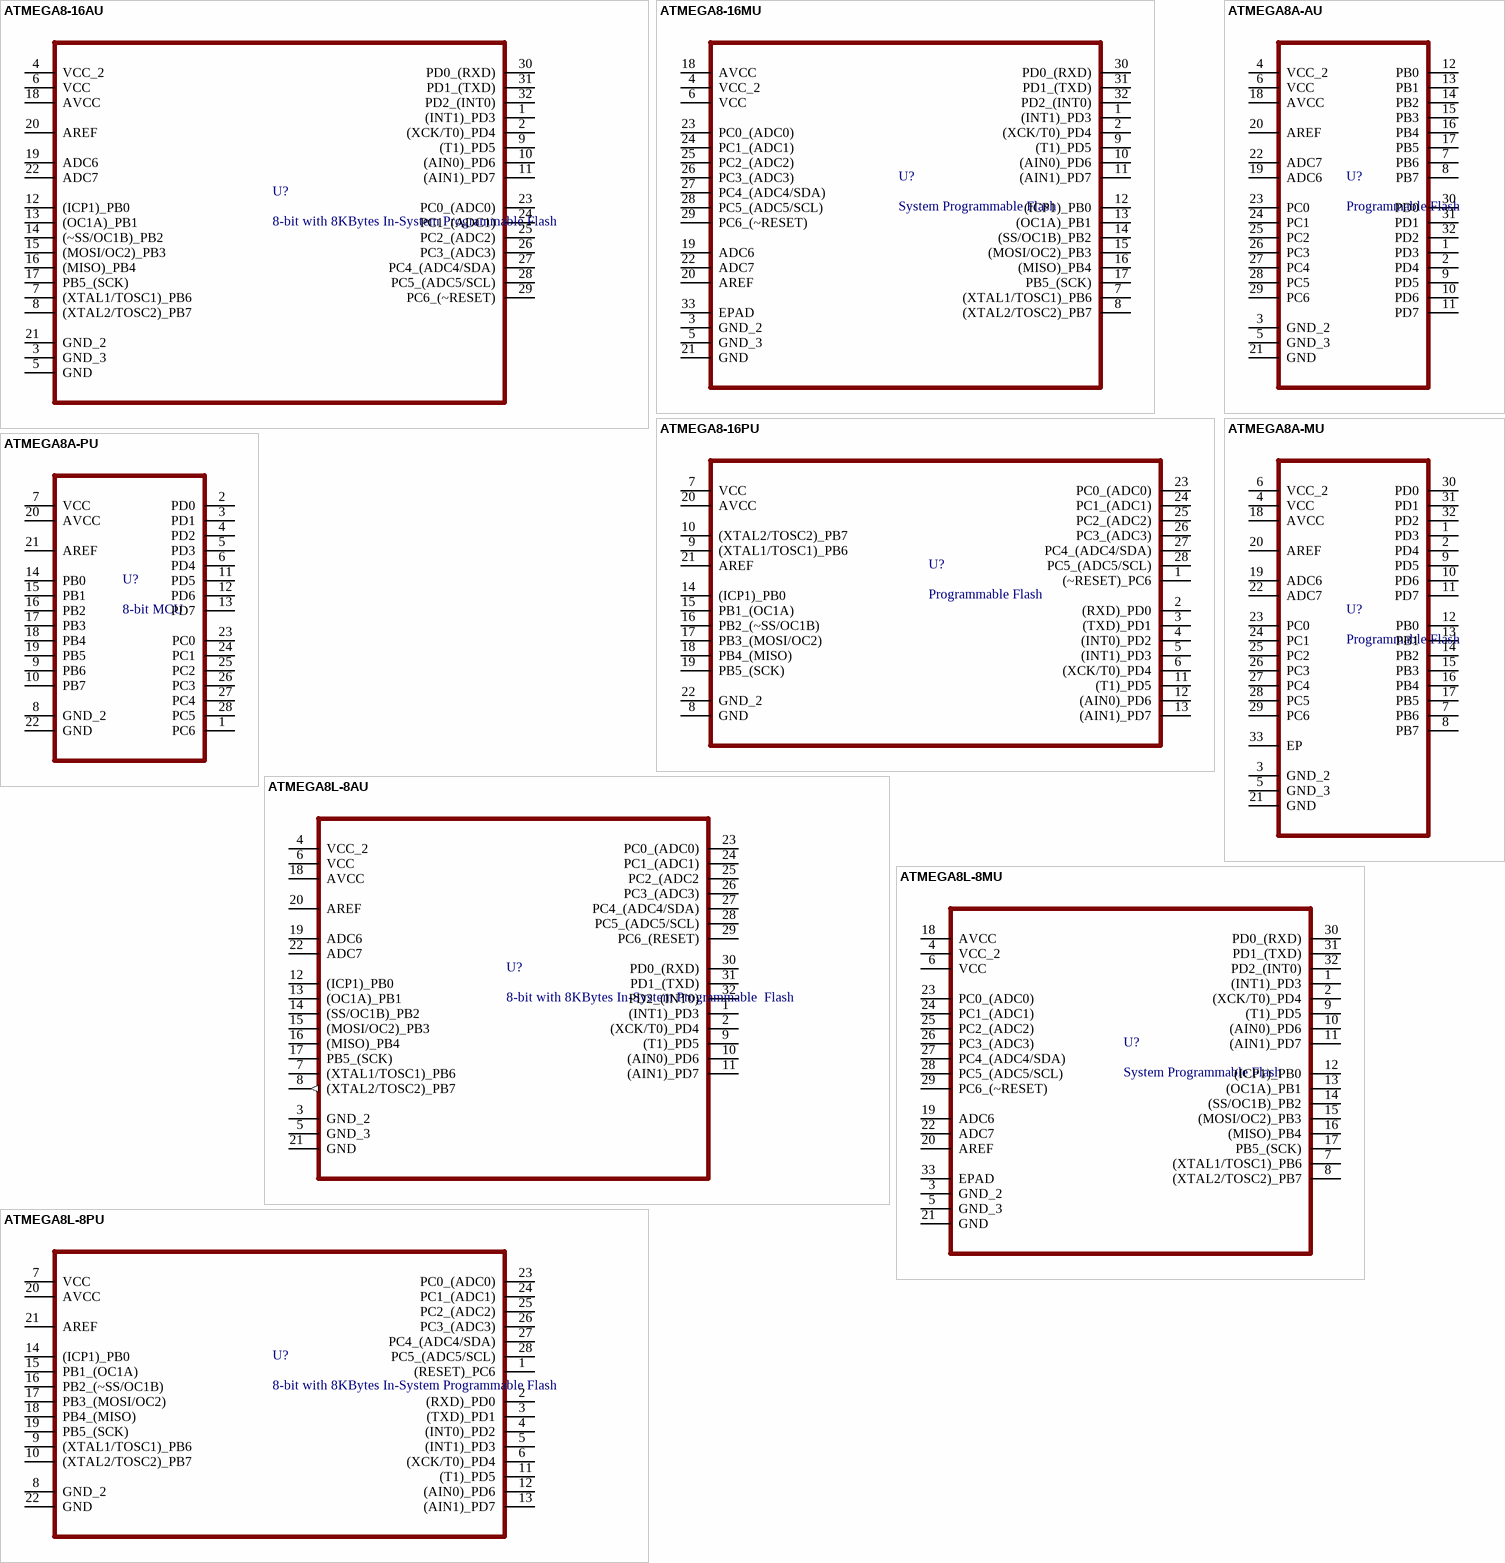
[diagram p13: symbols ATMEGA8-16AU to ATMEGA8L-8PU]

## ATMEGA8-16AU
designator U?, comment 8-bit with 8KBytes In-System Programmable Flash
MPN: ATMEGA8-16AU; OC_FARNELL: 9171371; OC_NEWARK: 68T3193; PACKAGE: QFP-32; SUPPLIER: Atmel
footprint QFP80P900X900X120-32N
pins: 1 (INT1)_PD3, 2 (XCK/T0)_PD4, 3 GND_3, 4 VCC_2 (power), 5 GND, 6 VCC (power), 7 (XTAL1/TOSC1)_PB6, 8 (XTAL2/TOSC2)_PB7, 9 (T1)_PD5, 10 (AIN0)_PD6, 11 (AIN1)_PD7, 12 (ICP1)_PB0, 13 (OC1A)_PB1, 14 (~SS/OC1B)_PB2, 15 (MOSI/OC2)_PB3, 16 (MISO)_PB4, 17 PB5_(SCK), 18 AVCC (power), 19 ADC6, 20 AREF, 21 GND_2, 22 ADC7, 23 PC0_(ADC0), 24 PC1_(ADC1), 25 PC2_(ADC2), 26 PC3_(ADC3), 27 PC4_(ADC4/SDA), 28 PC5_(ADC5/SCL), 29 PC6_(~RESET), 30 PD0_(RXD), 31 PD1_(TXD), 32 PD2_(INT0)

## ATMEGA8-16MU
designator U?, comment System Programmable Flash
MPN: ATMEGA8-16MU; OC_FARNELL: 1455127; OC_NEWARK: 58M3750; PACKAGE: QFN-32; SUPPLIER: Atmel
footprint QFN50P500X500X100-33N
pins: 1 (INT1)_PD3, 2 (XCK/T0)_PD4, 3 GND_2, 4 VCC_2 (power), 5 GND_3, 6 VCC (power), 7 (XTAL1/TOSC1)_PB6, 8 (XTAL2/TOSC2)_PB7, 9 (T1)_PD5, 10 (AIN0)_PD6, 11 (AIN1)_PD7, 12 (ICP1)_PB0, 13 (OC1A)_PB1, 14 (SS/OC1B)_PB2, 15 (MOSI/OC2)_PB3, 16 (MISO)_PB4, 17 PB5_(SCK), 18 AVCC (power), 19 ADC6, 20 AREF, 21 GND, 22 ADC7, 23 PC0_(ADC0), 24 PC1_(ADC1), 25 PC2_(ADC2), 26 PC3_(ADC3), 27 PC4_(ADC4/SDA), 28 PC5_(ADC5/SCL), 29 PC6_(~RESET), 30 PD0_(RXD), 31 PD1_(TXD), 32 PD2_(INT0), 33 EPAD

## ATMEGA8-16PU
designator U?, comment Programmable Flash
MPN: ATMEGA8-16PU; OC_FARNELL: 9171380; OC_NEWARK: 01M6901; PACKAGE: PCDIP-28; SUPPLIER: ATMEL
footprint DIP254P762X457-28
pins: 1 (~RESET)_PC6, 2 (RXD)_PD0, 3 (TXD)_PD1, 4 (INT0)_PD2, 5 (INT1)_PD3, 6 (XCK/T0)_PD4, 7 VCC (power), 8 GND, 9 (XTAL1/TOSC1)_PB6, 10 (XTAL2/TOSC2)_PB7, 11 (T1)_PD5, 12 (AIN0)_PD6, 13 (AIN1)_PD7, 14 (ICP1)_PB0, 15 PB1_(OC1A), 16 PB2_(~SS/OC1B), 17 PB3_(MOSI/OC2), 18 PB4_(MISO), 19 PB5_(SCK), 20 AVCC (power), 21 AREF, 22 GND_2, 23 PC0_(ADC0), 24 PC1_(ADC1), 25 PC2_(ADC2), 26 PC3_(ADC3), 27 PC4_(ADC4/SDA), 28 PC5_(ADC5/SCL)

## ATMEGA8A-AU
designator U?, comment Programmable Flash
MPN: ATMEGA8A-AU; OC_FARNELL: 1748532; OC_NEWARK: 26R5638; PACKAGE: TQFP-32; SUPPLIER: Atmel
footprint QFP80P900X900X120-32N
pins: 1 PD3, 2 PD4, 3 GND_2, 4 VCC_2 (power), 5 GND_3, 6 VCC (power), 7 PB6, 8 PB7, 9 PD5, 10 PD6, 11 PD7, 12 PB0, 13 PB1, 14 PB2, 15 PB3, 16 PB4, 17 PB5, 18 AVCC (power), 19 ADC6, 20 AREF, 21 GND, 22 ADC7, 23 PC0, 24 PC1, 25 PC2, 26 PC3, 27 PC4, 28 PC5, 29 PC6, 30 PD0, 31 PD1, 32 PD2

## ATMEGA8A-MU
designator U?, comment Programmable Flash
MPN: ATMEGA8A-MU; OC_FARNELL: 1748533; OC_NEWARK: 26R5639; PACKAGE: QFN-32; SUPPLIER: Atmel
footprint QFN50P500X500X100-33N
pins: 1 PD3, 2 PD4, 3 GND_2, 4 VCC (power), 5 GND_3, 6 VCC_2 (power), 7 PB6, 8 PB7, 9 PD5, 10 PD6, 11 PD7, 12 PB0, 13 PB1, 14 PB2, 15 PB3, 16 PB4, 17 PB5, 18 AVCC (power), 19 ADC6, 20 AREF, 21 GND, 22 ADC7, 23 PC0, 24 PC1, 25 PC2, 26 PC3, 27 PC4, 28 PC5, 29 PC6, 30 PD0, 31 PD1, 32 PD2, 33 EP

## ATMEGA8A-PU
designator U?, comment 8-bit MCU
MPN: ATMEGA8A-PU; OC_FARNELL: 1748534; OC_NEWARK: 26R5640; PACKAGE: DIP-28; SUPPLIER: Atmel
footprint DIP254P762X457-28
pins: 1 PC6, 2 PD0, 3 PD1, 4 PD2, 5 PD3, 6 PD4, 7 VCC (power), 8 GND_2, 9 PB6, 10 PB7, 11 PD5, 12 PD6, 13 PD7, 14 PB0, 15 PB1, 16 PB2, 17 PB3, 18 PB4, 19 PB5, 20 AVCC (power), 21 AREF, 22 GND, 23 PC0, 24 PC1, 25 PC2, 26 PC3, 27 PC4, 28 PC5

## ATMEGA8L-8AU
designator U?, comment 8-bit with 8KBytes In-System Programmable  Flash
MPN: ATMEGA8L-8AU; OC_FARNELL: 9171525; OC_NEWARK: 68T3210; PACKAGE: QFP-32; SUPPLIER: Atmel
footprint QFP80P900X900X120-32N
pins: 1 (INT1)_PD3, 2 (XCK/T0)_PD4, 3 GND_2, 4 VCC_2 (power), 5 GND_3, 6 VCC (power), 7 (XTAL1/TOSC1)_PB6, 8 (XTAL2/TOSC2)_PB7 (out), 9 (T1)_PD5, 10 (AIN0)_PD6, 11 (AIN1)_PD7, 12 (ICP1)_PB0, 13 (OC1A)_PB1, 14 (SS/OC1B)_PB2, 15 (MOSI/OC2)_PB3, 16 (MISO)_PB4, 17 PB5_(SCK), 18 AVCC (power), 19 ADC6, 20 AREF, 21 GND, 22 ADC7, 23 PC0_(ADC0), 24 PC1_(ADC1), 25 PC2_(ADC2, 26 PC3_(ADC3), 27 PC4_(ADC4/SDA), 28 PC5_(ADC5/SCL), 29 PC6_(RESET), 30 PD0_(RXD), 31 PD1_(TXD), 32 PD2_(INT0)

## ATMEGA8L-8MU
designator U?, comment System Programmable Flash
MPN: ATMEGA8L-8MU; OC_FARNELL: 1455130; OC_NEWARK: 58M3751; PACKAGE: QFN-32; SUPPLIER: Atmel
footprint QFN50P500X500X100-33N
pins: 1 (INT1)_PD3, 2 (XCK/T0)_PD4, 3 GND_2, 4 VCC_2 (power), 5 GND_3, 6 VCC (power), 7 (XTAL1/TOSC1)_PB6, 8 (XTAL2/TOSC2)_PB7, 9 (T1)_PD5, 10 (AIN0)_PD6, 11 (AIN1)_PD7, 12 (ICP1)_PB0, 13 (OC1A)_PB1, 14 (SS/OC1B)_PB2, 15 (MOSI/OC2)_PB3, 16 (MISO)_PB4, 17 PB5_(SCK), 18 AVCC (power), 19 ADC6, 20 AREF, 21 GND, 22 ADC7, 23 PC0_(ADC0), 24 PC1_(ADC1), 25 PC2_(ADC2), 26 PC3_(ADC3), 27 PC4_(ADC4/SDA), 28 PC5_(ADC5/SCL), 29 PC6_(~RESET), 30 PD0_(RXD), 31 PD1_(TXD), 32 PD2_(INT0), 33 EPAD

## ATMEGA8L-8PU
designator U?, comment 8-bit with 8KBytes In-System Programmable Flash
MPN: ATMEGA8L-8PU; OC_FARNELL: 9171533; OC_NEWARK: 01M6903; PACKAGE: PCDIP-28; SUPPLIER: ATMEL
footprint DIP254P762X457-28
pins: 1 (RESET)_PC6, 2 (RXD)_PD0, 3 (TXD)_PD1, 4 (INT0)_PD2, 5 (INT1)_PD3, 6 (XCK/T0)_PD4, 7 VCC (power), 8 GND_2, 9 (XTAL1/TOSC1)_PB6, 10 (XTAL2/TOSC2)_PB7, 11 (T1)_PD5, 12 (AIN0)_PD6, 13 (AIN1)_PD7, 14 (ICP1)_PB0, 15 PB1_(OC1A), 16 PB2_(~SS/OC1B), 17 PB3_(MOSI/OC2), 18 PB4_(MISO), 19 PB5_(SCK), 20 AVCC (power), 21 AREF, 22 GND, 23 PC0_(ADC0), 24 PC1_(ADC1), 25 PC2_(ADC2), 26 PC3_(ADC3), 27 PC4_(ADC4/SDA), 28 PC5_(ADC5/SCL)

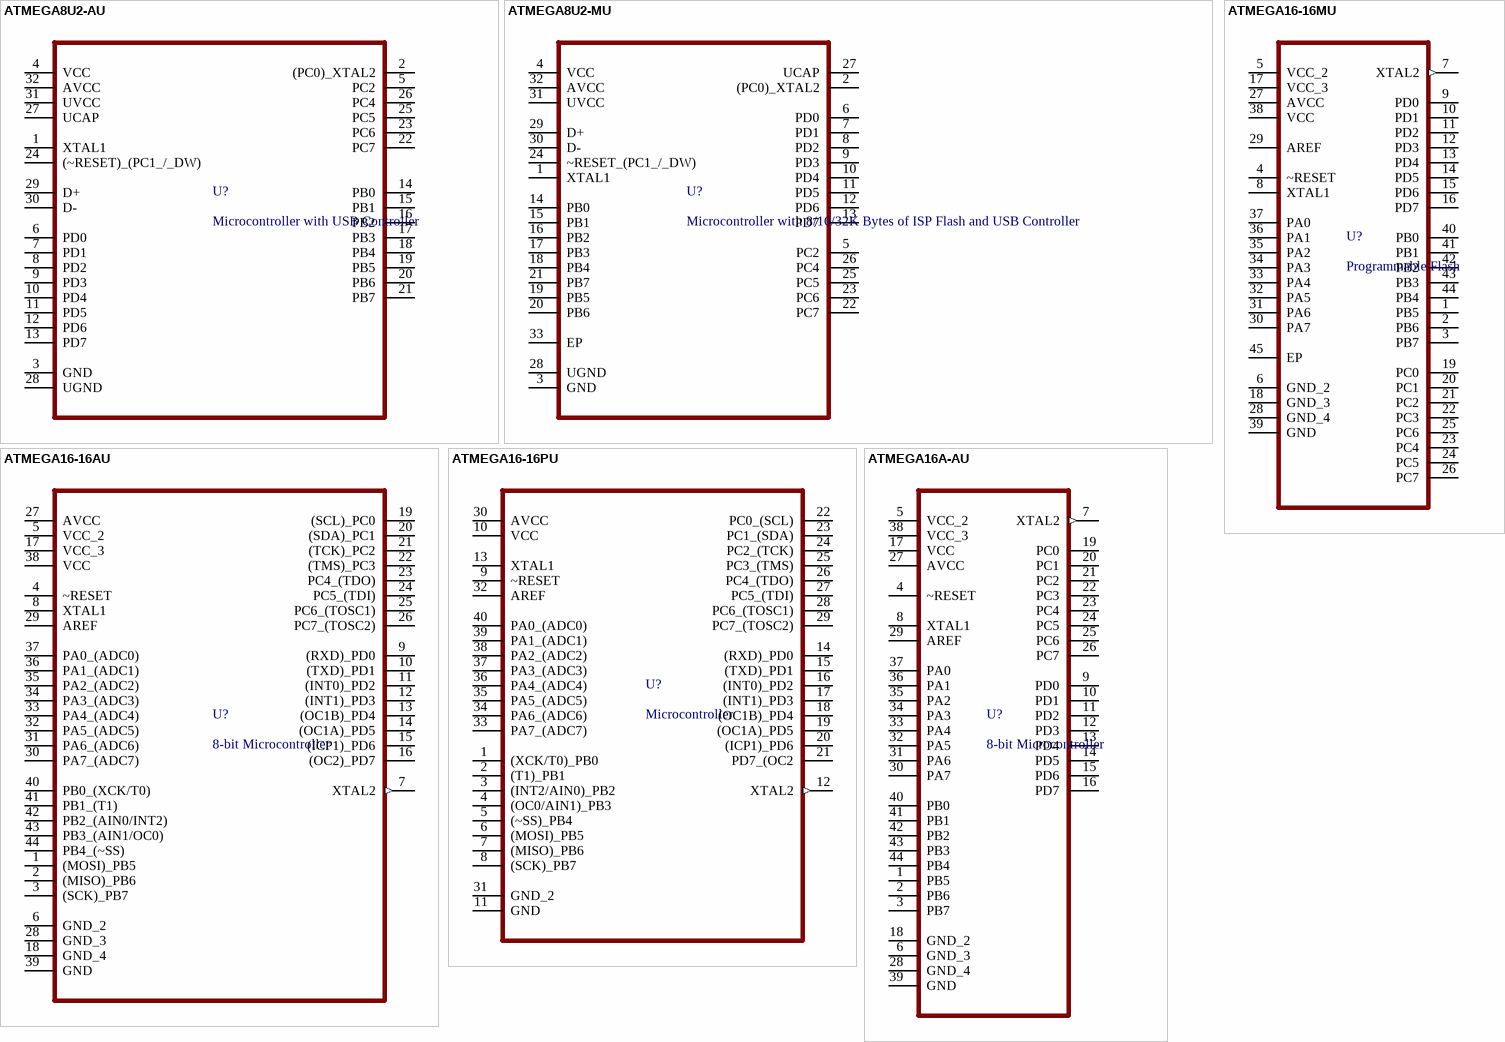
[diagram p14: symbols ATMEGA8U2-AU to ATMEGA16A-AU]

## ATMEGA8U2-AU
designator U?, comment Microcontroller with USB Controller
MPN: ATMEGA8U2-AU; OC_FARNELL: 1748535; OC_NEWARK: 26R5641; PACKAGE: TQFP-32; SUPPLIER: Atmel
footprint QFP80P900X900X120-32N
pins: 1 XTAL1, 2 (PC0)_XTAL2, 3 GND, 4 VCC (power), 5 PC2, 6 PD0, 7 PD1, 8 PD2, 9 PD3, 10 PD4, 11 PD5, 12 PD6, 13 PD7, 14 PB0, 15 PB1, 16 PB2, 17 PB3, 18 PB4, 19 PB5, 20 PB6, 21 PB7, 22 PC7, 23 PC6, 24 (~RESET)_(PC1_/_DW), 25 PC5, 26 PC4, 27 UCAP (power), 28 UGND, 29 D+, 30 D-, 31 UVCC (power), 32 AVCC (power)

## ATMEGA8U2-MU
designator U?, comment Microcontroller with 8/16/32K Bytes of ISP Flash and USB Controller
MPN: ATMEGA8U2-MU; OC_FARNELL: 1748536; OC_NEWARK: 26R5642; PACKAGE: QFN-32; SUPPLIER: Atmel
footprint QFN50P500X500X100-33N
pins: 1 XTAL1, 2 (PC0)_XTAL2, 3 GND, 4 VCC (power), 5 PC2, 6 PD0, 7 PD1, 8 PD2, 9 PD3, 10 PD4, 11 PD5, 12 PD6, 13 PD7, 14 PB0, 15 PB1, 16 PB2, 17 PB3, 18 PB4, 19 PB5, 20 PB6, 21 PB7, 22 PC7, 23 PC6, 24 ~RESET_(PC1_/_DW), 25 PC5, 26 PC4, 27 UCAP (power), 28 UGND, 29 D+, 30 D-, 31 UVCC (power), 32 AVCC (power), 33 EP

## ATMEGA16-16AU
designator U?, comment 8-bit Microcontroller
MPN: ATMEGA16-16AU; OC_FARNELL: 9171134; OC_NEWARK: 96K6515; PACKAGE: QFP-44; SUPPLIER: Atmel
footprint QFP80P1200X1200X120-44N
pins: 1 (MOSI)_PB5, 2 (MISO)_PB6, 3 (SCK)_PB7, 4 ~RESET, 5 VCC_2 (power), 6 GND_2, 7 XTAL2 (out), 8 XTAL1, 9 (RXD)_PD0, 10 (TXD)_PD1, 11 (INT0)_PD2, 12 (INT1)_PD3, 13 (OC1B)_PD4, 14 (OC1A)_PD5, 15 (ICP1)_PD6, 16 (OC2)_PD7, 17 VCC_3 (power), 18 GND_4, 19 (SCL)_PC0, 20 (SDA)_PC1, 21 (TCK)_PC2, 22 (TMS)_PC3, 23 PC4_(TDO), 24 PC5_(TDI), 25 PC6_(TOSC1), 26 PC7_(TOSC2), 27 AVCC (power), 28 GND_3, 29 AREF, 30 PA7_(ADC7), 31 PA6_(ADC6), 32 PA5_(ADC5), 33 PA4_(ADC4), 34 PA3_(ADC3), 35 PA2_(ADC2), 36 PA1_(ADC1), 37 PA0_(ADC0), 38 VCC (power), 39 GND, 40 PB0_(XCK/T0), 41 PB1_(T1), 42 PB2_(AIN0/INT2), 43 PB3_(AIN1/OC0), 44 PB4_(~SS)

## ATMEGA16-16MU
designator U?, comment Programmable Flash
MPN: ATMEGA16-16MU; OC_FARNELL: 1455097; OC_NEWARK: 58M3723; PACKAGE: QFN-44; SUPPLIER: Atmel
footprint QFN50P700X700X100-45N
pins: 1 PB5, 2 PB6, 3 PB7, 4 ~RESET, 5 VCC_2 (power), 6 GND_2, 7 XTAL2 (out), 8 XTAL1, 9 PD0, 10 PD1, 11 PD2, 12 PD3, 13 PD4, 14 PD5, 15 PD6, 16 PD7, 17 VCC_3 (power), 18 GND_3, 19 PC0, 20 PC1, 21 PC2, 22 PC3, 23 PC4, 24 PC5, 25 PC6, 26 PC7, 27 AVCC (power), 28 GND_4, 29 AREF, 30 PA7, 31 PA6, 32 PA5, 33 PA4, 34 PA3, 35 PA2, 36 PA1, 37 PA0, 38 VCC, 39 GND, 40 PB0, 41 PB1, 42 PB2, 43 PB3, 44 PB4, 45 EP

## ATMEGA16-16PU
designator U?, comment Microcontroller
MPN: ATMEGA16-16PU; OC_FARNELL: 9171142; OC_NEWARK: 01M6885; PACKAGE: DIP-40; SUPPLIER: Atmel
footprint DIP254P1524X482-40
pins: 1 (XCK/T0)_PB0, 2 (T1)_PB1, 3 (INT2/AIN0)_PB2, 4 (OC0/AIN1)_PB3, 5 (~SS)_PB4, 6 (MOSI)_PB5, 7 (MISO)_PB6, 8 (SCK)_PB7, 9 ~RESET, 10 VCC (power), 11 GND, 12 XTAL2 (out), 13 XTAL1, 14 (RXD)_PD0, 15 (TXD)_PD1, 16 (INT0)_PD2, 17 (INT1)_PD3, 18 (OC1B)_PD4, 19 (OC1A)_PD5, 20 (ICP1)_PD6, 21 PD7_(OC2, 22 PC0_(SCL), 23 PC1_(SDA), 24 PC2_(TCK), 25 PC3_(TMS), 26 PC4_(TDO), 27 PC5_(TDI), 28 PC6_(TOSC1), 29 PC7_(TOSC2), 30 AVCC (power), 31 GND_2, 32 AREF, 33 PA7_(ADC7), 34 PA6_(ADC6), 35 PA5_(ADC5), 36 PA4_(ADC4), 37 PA3_(ADC3), 38 PA2_(ADC2), 39 PA1_(ADC1), 40 PA0_(ADC0)

## ATMEGA16A-AU
designator U?, comment 8-bit Microcontroller
MPN: ATMEGA16A-AU; OC_FARNELL: 1704560; OC_NEWARK: 08R5490; PACKAGE: TQFP-44; SUPPLIER: Atmel
footprint QFP80P1200X1200X120-44N
pins: 1 PB5, 2 PB6, 3 PB7, 4 ~RESET, 5 VCC_2 (power), 6 GND_3, 7 XTAL2 (out), 8 XTAL1, 9 PD0, 10 PD1, 11 PD2, 12 PD3, 13 PD4, 14 PD5, 15 PD6, 16 PD7, 17 VCC (power), 18 GND_2, 19 PC0, 20 PC1, 21 PC2, 22 PC3, 23 PC4, 24 PC5, 25 PC6, 26 PC7, 27 AVCC (power), 28 GND_4, 29 AREF, 30 PA7, 31 PA6, 32 PA5, 33 PA4, 34 PA3, 35 PA2, 36 PA1, 37 PA0, 38 VCC_3 (power), 39 GND, 40 PB0, 41 PB1, 42 PB2, 43 PB3, 44 PB4

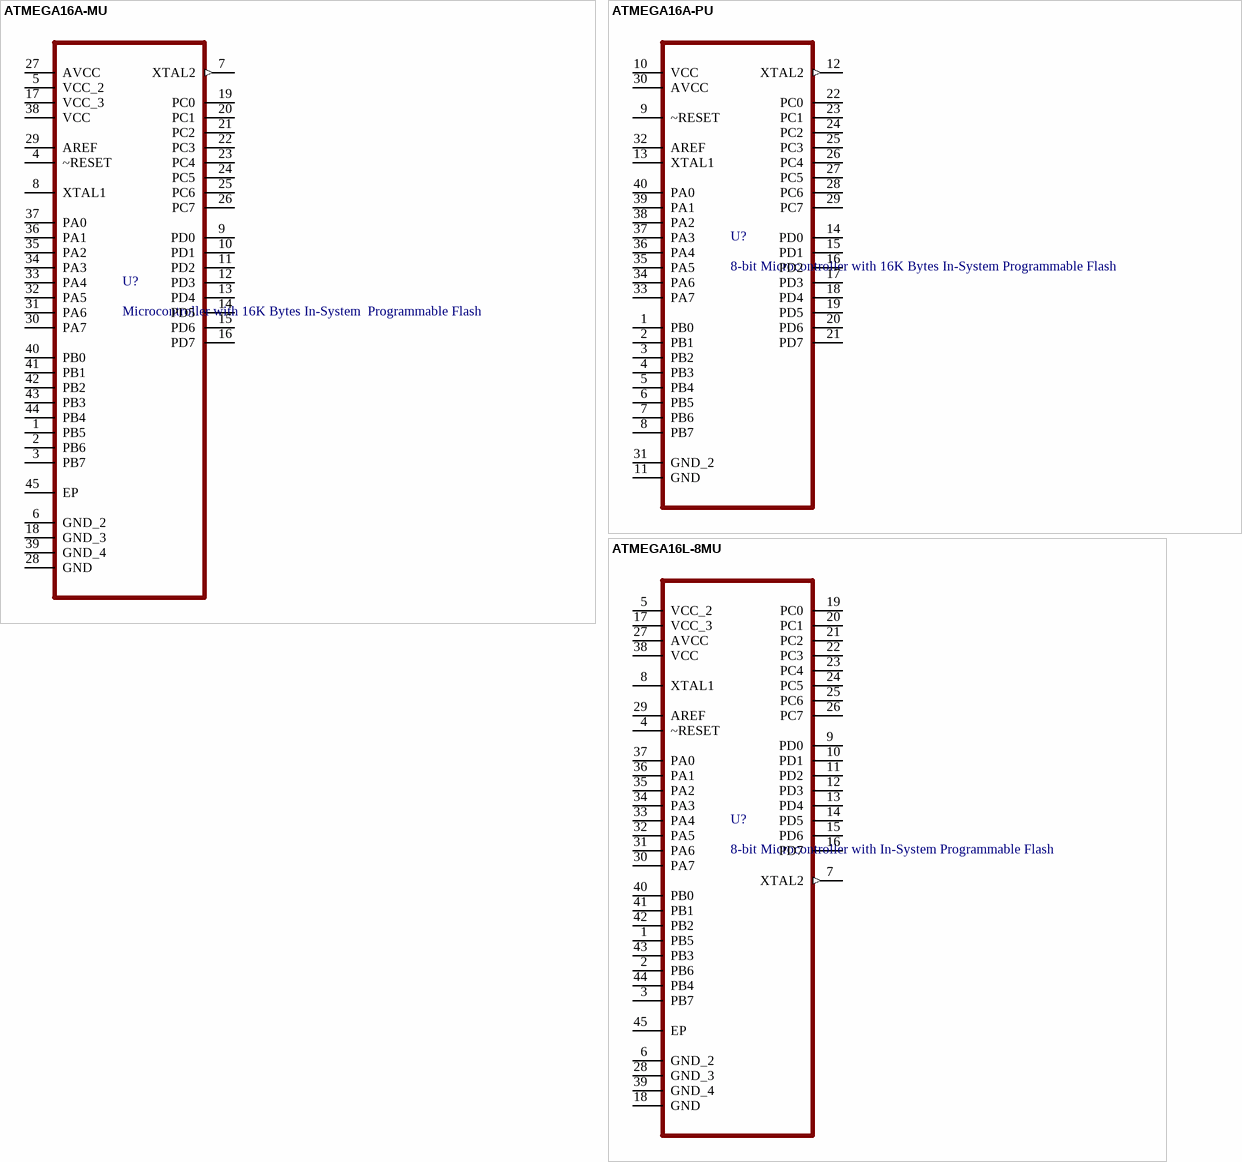
[diagram p15: symbols ATMEGA16A-MU to ATMEGA16L-8MU]

## ATMEGA16A-MU
designator U?, comment Microcontroller with 16K Bytes In-System  Programmable Flash
MPN: ATMEGA16A-MU; OC_FARNELL: 1748519; OC_NEWARK: 68T2579; PACKAGE: QFN-44; SUPPLIER: Atmel
footprint QFN50P700X700X100-45N
pins: 1 PB5, 2 PB6, 3 PB7, 4 ~RESET, 5 VCC_2 (power), 6 GND_2, 7 XTAL2 (out), 8 XTAL1, 9 PD0, 10 PD1, 11 PD2, 12 PD3, 13 PD4, 14 PD5, 15 PD6, 16 PD7, 17 VCC_3 (power), 18 GND_3, 19 PC0, 20 PC1, 21 PC2, 22 PC3, 23 PC4, 24 PC5, 25 PC6, 26 PC7, 27 AVCC (power), 28 GND, 29 AREF, 30 PA7, 31 PA6, 32 PA5, 33 PA4, 34 PA3, 35 PA2, 36 PA1, 37 PA0, 38 VCC (power), 39 GND_4, 40 PB0, 41 PB1, 42 PB2, 43 PB3, 44 PB4, 45 EP

## ATMEGA16A-PU
designator U?, comment 8-bit Microcontroller with 16K Bytes In-System Programmable Flash
MPN: ATMEGA16A-PU; OC_FARNELL: 1704561; OC_NEWARK: 08R5491; PACKAGE: PDIP-40; SUPPLIER: Atmel
footprint DIP254P1524X482-40
pins: 1 PB0, 2 PB1, 3 PB2, 4 PB3, 5 PB4, 6 PB5, 7 PB6, 8 PB7, 9 ~RESET, 10 VCC (power), 11 GND, 12 XTAL2 (out), 13 XTAL1, 14 PD0, 15 PD1, 16 PD2, 17 PD3, 18 PD4, 19 PD5, 20 PD6, 21 PD7, 22 PC0, 23 PC1, 24 PC2, 25 PC3, 26 PC4, 27 PC5, 28 PC6, 29 PC7, 30 AVCC (power), 31 GND_2, 32 AREF, 33 PA7, 34 PA6, 35 PA5, 36 PA4, 37 PA3, 38 PA2, 39 PA1, 40 PA0

## ATMEGA16L-8MU
designator U?, comment 8-bit Microcontroller with In-System Programmable Flash
MPN: ATMEGA16L-8MU; OC_FARNELL: 1455107; OC_NEWARK: 58M3724; PACKAGE: QFN-44; SUPPLIER: Atmel
footprint QFN50P700X700X100-45N
pins: 1 PB5, 2 PB6, 3 PB7, 4 ~RESET, 5 VCC_2 (power), 6 GND_2, 7 XTAL2 (out), 8 XTAL1, 9 PD0, 10 PD1, 11 PD2, 12 PD3, 13 PD4, 14 PD5, 15 PD6, 16 PD7, 17 VCC_3 (power), 18 GND, 19 PC0, 20 PC1, 21 PC2, 22 PC3, 23 PC4, 24 PC5, 25 PC6, 26 PC7, 27 AVCC (power), 28 GND_3, 29 AREF, 30 PA7, 31 PA6, 32 PA5, 33 PA4, 34 PA3, 35 PA2, 36 PA1, 37 PA0, 38 VCC (power), 39 GND_4, 40 PB0, 41 PB1, 42 PB2, 43 PB3, 44 PB4, 45 EP

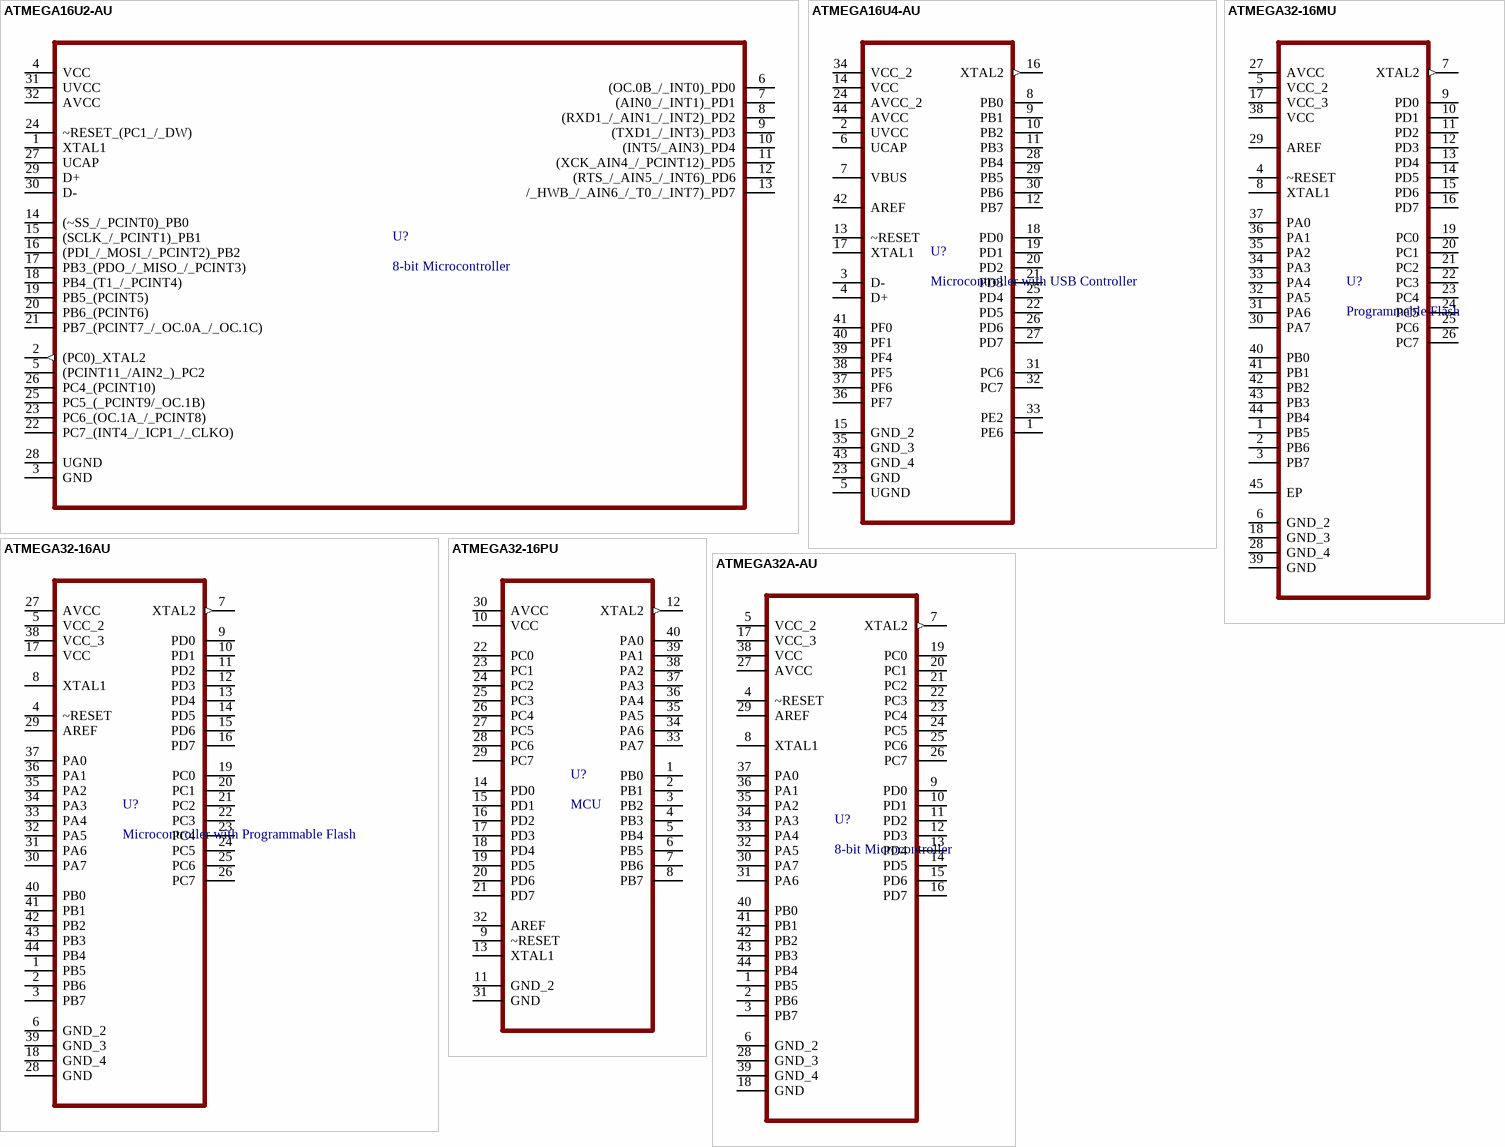
[diagram p16: symbols ATMEGA16U2-AU to ATMEGA32A-AU]

## ATMEGA16U2-AU
designator U?, comment 8-bit Microcontroller
MPN: ATMEGA16U2-AU; OC_FARNELL: 1841607; OC_NEWARK: 12T1292; PACKAGE: QFP-32; SUPPLIER: Atmel
footprint QFP80P900X900X120-32N
pins: 1 XTAL1, 2 (PC0)_XTAL2 (out), 3 GND, 4 VCC (power), 5 (PCINT11_/AIN2_)_PC2, 6 (OC.0B_/_INT0)_PD0, 7 (AIN0_/_INT1)_PD1, 8 (RXD1_/_AIN1_/_INT2)_PD2, 9 (TXD1_/_INT3)_PD3, 10 (INT5/_AIN3)_PD4, 11 (XCK_AIN4_/_PCINT12)_PD5, 12 (RTS_/_AIN5_/_INT6)_PD6, 13 /_HWB_/_AIN6_/_T0_/_INT7)_PD7, 14 (~SS_/_PCINT0)_PB0, 15 (SCLK_/_PCINT1)_PB1, 16 (PDI_/_MOSI_/_PCINT2)_PB2, 17 PB3_(PDO_/_MISO_/_PCINT3), 18 PB4_(T1_/_PCINT4), 19 PB5_(PCINT5), 20 PB6_(PCINT6), 21 PB7_(PCINT7_/_OC.0A_/_OC.1C), 22 PC7_(INT4_/_ICP1_/_CLKO), 23 PC6_(OC.1A_/_PCINT8), 24 ~RESET_(PC1_/_DW), 25 PC5_(_PCINT9/_OC.1B), 26 PC4_(PCINT10), 27 UCAP, 28 UGND, 29 D+, 30 D-, 31 UVCC (power), 32 AVCC (power)

## ATMEGA16U4-AU
designator U?, comment Microcontroller with USB Controller
MPN: ATMEGA16U4-AU; OC_FARNELL: 1748521; OC_NEWARK: 26R5623; PACKAGE: TQFP-44; SUPPLIER: Atmel
footprint QFP80P1200X1200X120-44N
pins: 1 PE6, 2 UVCC (power), 3 D-, 4 D+, 5 UGND, 6 UCAP (power), 7 VBUS, 8 PB0, 9 PB1, 10 PB2, 11 PB3, 12 PB7, 13 ~RESET, 14 VCC (power), 15 GND_2, 16 XTAL2 (out), 17 XTAL1, 18 PD0, 19 PD1, 20 PD2, 21 PD3, 22 PD5, 23 GND, 24 AVCC_2 (power), 25 PD4, 26 PD6, 27 PD7, 28 PB4, 29 PB5, 30 PB6, 31 PC6, 32 PC7, 33 PE2, 34 VCC_2 (power), 35 GND_3, 36 PF7, 37 PF6, 38 PF5, 39 PF4, 40 PF1, 41 PF0, 42 AREF, 43 GND_4, 44 AVCC (power)

## ATMEGA32-16AU
designator U?, comment Microcontroller with Programmable Flash
MPN: ATMEGA32-16AU; OC_FARNELL: 9171274; OC_NEWARK: 69K6677; PACKAGE: TQFP-44; SUPPLIER: Atmel
footprint QFP80P1200X1200X120-44N
pins: 1 PB5, 2 PB6, 3 PB7, 4 ~RESET, 5 VCC_2 (power), 6 GND_2, 7 XTAL2 (out), 8 XTAL1, 9 PD0, 10 PD1, 11 PD2, 12 PD3, 13 PD4, 14 PD5, 15 PD6, 16 PD7, 17 VCC (power), 18 GND_4, 19 PC0, 20 PC1, 21 PC2, 22 PC3, 23 PC4, 24 PC5, 25 PC6, 26 PC7, 27 AVCC (power), 28 GND, 29 AREF, 30 PA7, 31 PA6, 32 PA5, 33 PA4, 34 PA3, 35 PA2, 36 PA1, 37 PA0, 38 VCC_3 (power), 39 GND_3, 40 PB0, 41 PB1, 42 PB2, 43 PB3, 44 PB4

## ATMEGA32-16MU
designator U?, comment Programmable Flash
MPN: ATMEGA32-16MU; OC_FARNELL: 1455108; OC_NEWARK: 58M3733; PACKAGE: QFN-44; SUPPLIER: Atmel
footprint QFN50P700X700X100-45N
pins: 1 PB5, 2 PB6, 3 PB7, 4 ~RESET, 5 VCC_2 (power), 6 GND_2, 7 XTAL2 (out), 8 XTAL1, 9 PD0, 10 PD1, 11 PD2, 12 PD3, 13 PD4, 14 PD5, 15 PD6, 16 PD7, 17 VCC_3 (power), 18 GND_3, 19 PC0, 20 PC1, 21 PC2, 22 PC3, 23 PC4, 24 PC5, 25 PC6, 26 PC7, 27 AVCC (power), 28 GND_4, 29 AREF, 30 PA7, 31 PA6, 32 PA5, 33 PA4, 34 PA3, 35 PA2, 36 PA1, 37 PA0, 38 VCC (power), 39 GND, 40 PB0, 41 PB1, 42 PB2, 43 PB3, 44 PB4, 45 EP

## ATMEGA32-16PU
designator U?, comment MCU
MPN: ATMEGA32-16PU; OC_FARNELL: 9171282; OC_NEWARK: 51P1794; PACKAGE: DIP-40; SUPPLIER: Atmel
footprint DIP254P1524X482-40
pins: 1 PB0, 2 PB1, 3 PB2, 4 PB3, 5 PB4, 6 PB5, 7 PB6, 8 PB7, 9 ~RESET, 10 VCC (power), 11 GND_2, 12 XTAL2 (out), 13 XTAL1, 14 PD0, 15 PD1, 16 PD2, 17 PD3, 18 PD4, 19 PD5, 20 PD6, 21 PD7, 22 PC0, 23 PC1, 24 PC2, 25 PC3, 26 PC4, 27 PC5, 28 PC6, 29 PC7, 30 AVCC (power), 31 GND, 32 AREF, 33 PA7, 34 PA6, 35 PA5, 36 PA4, 37 PA3, 38 PA2, 39 PA1, 40 PA0

## ATMEGA32A-AU
designator U?, comment 8-bit Microcontroller
MPN: ATMEGA32A-AU; OC_FARNELL: 1704563; OC_NEWARK: 08R5492; PACKAGE: TQFP-32; SUPPLIER: Atmel
footprint QFP80P1200X1200X120-44N
pins: 1 PB5, 2 PB6, 3 PB7, 4 ~RESET, 5 VCC_2 (power), 6 GND_2, 7 XTAL2 (out), 8 XTAL1, 9 PD0, 10 PD1, 11 PD2, 12 PD3, 13 PD4, 14 PD5, 15 PD6, 16 PD7, 17 VCC_3 (power), 18 GND, 19 PC0, 20 PC1, 21 PC2, 22 PC3, 23 PC4, 24 PC5, 25 PC6, 26 PC7, 27 AVCC (power), 28 GND_3, 29 AREF, 30 PA7, 31 PA6, 32 PA5, 33 PA4, 34 PA3, 35 PA2, 36 PA1, 37 PA0, 38 VCC (power), 39 GND_4, 40 PB0, 41 PB1, 42 PB2, 43 PB3, 44 PB4

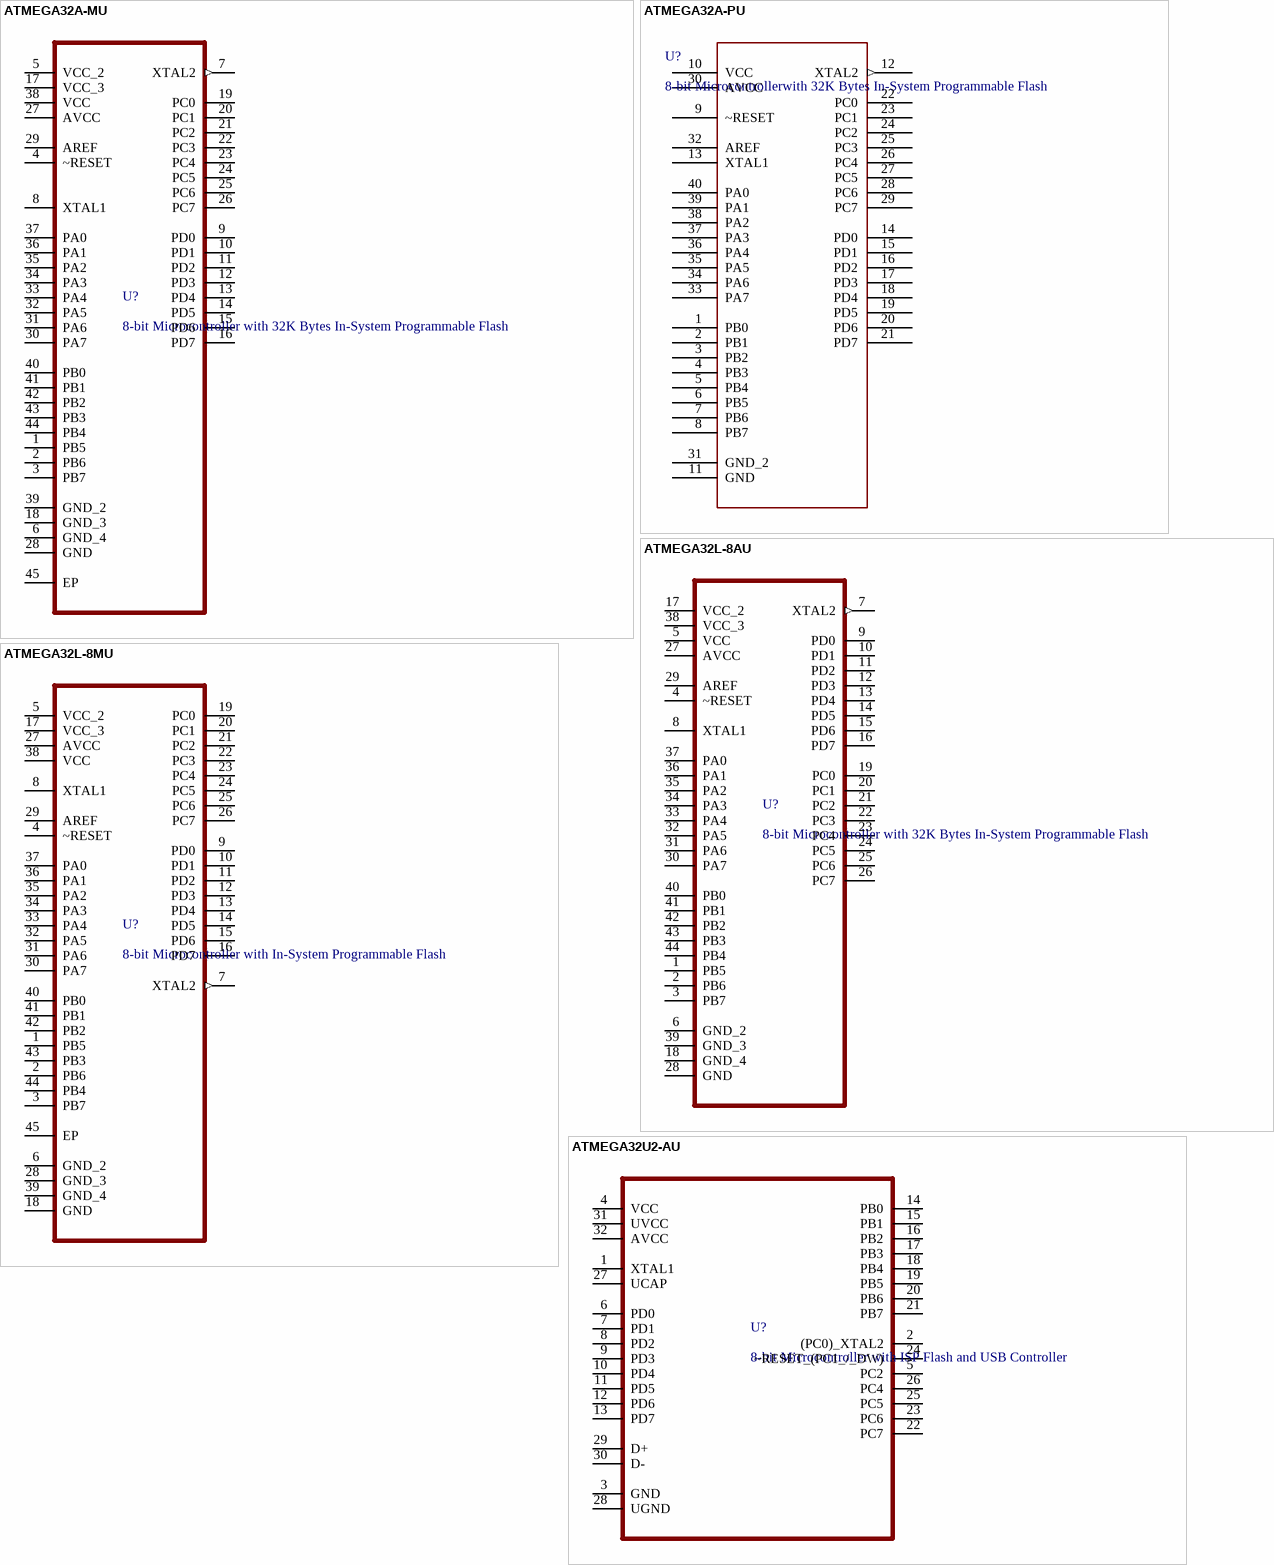
[diagram p17: symbols ATMEGA32A-MU to ATMEGA32U2-AU]

## ATMEGA32A-MU
designator U?, comment 8-bit Microcontroller with 32K Bytes In-System Programmable Flash
MPN: ATMEGA32A-MU; OC_FARNELL: 1748523; OC_NEWARK: 26R5631; PACKAGE: QFN-44; SUPPLIER: Atmel
footprint QFN50P700X700X100-45N
pins: 1 PB5, 2 PB6, 3 PB7, 4 ~RESET, 5 VCC_2 (power), 6 GND_4, 7 XTAL2 (out), 8 XTAL1, 9 PD0, 10 PD1, 11 PD2, 12 PD3, 13 PD4, 14 PD5, 15 PD6, 16 PD7, 17 VCC_3 (power), 18 GND_3, 19 PC0, 20 PC1, 21 PC2, 22 PC3, 23 PC4, 24 PC5, 25 PC6, 26 PC7, 27 AVCC (power), 28 GND, 29 AREF, 30 PA7, 31 PA6, 32 PA5, 33 PA4, 34 PA3, 35 PA2, 36 PA1, 37 PA0, 38 VCC (power), 39 GND_2, 40 PB0, 41 PB1, 42 PB2, 43 PB3, 44 PB4, 45 EP

## ATMEGA32A-PU
designator U?, comment 8-bit Microcontrollerwith 32K Bytes In-System Programmable Flash
MPN: ATMEGA32A-PU; OC_FARNELL: 1704565; OC_NEWARK: 08R5493; PACKAGE: DIP-40; SUPPLIER: Atmel
footprint DIP254P1524X482-40
pins: 1 PB0, 2 PB1, 3 PB2, 4 PB3, 5 PB4, 6 PB5, 7 PB6, 8 PB7, 9 ~RESET, 10 VCC (power), 11 GND, 12 XTAL2 (out), 13 XTAL1, 14 PD0, 15 PD1, 16 PD2, 17 PD3, 18 PD4, 19 PD5, 20 PD6, 21 PD7, 22 PC0, 23 PC1, 24 PC2, 25 PC3, 26 PC4, 27 PC5, 28 PC6, 29 PC7, 30 AVCC (power), 31 GND_2, 32 AREF, 33 PA7, 34 PA6, 35 PA5, 36 PA4, 37 PA3, 38 PA2, 39 PA1, 40 PA0

## ATMEGA32L-8AU
designator U?, comment 8-bit Microcontroller with 32K Bytes In-System Programmable Flash
MPN: ATMEGA32L-8AU; OC_FARNELL: 9171290; OC_NEWARK: 01M6897; PACKAGE: TQFP-44; SUPPLIER: Atmel
footprint QFP80P1200X1200X120-44N
pins: 1 PB5, 2 PB6, 3 PB7, 4 ~RESET, 5 VCC (power), 6 GND_2, 7 XTAL2 (out), 8 XTAL1, 9 PD0, 10 PD1, 11 PD2, 12 PD3, 13 PD4, 14 PD5, 15 PD6, 16 PD7, 17 VCC_2 (power), 18 GND_4, 19 PC0, 20 PC1, 21 PC2, 22 PC3, 23 PC4, 24 PC5, 25 PC6, 26 PC7, 27 AVCC (power), 28 GND, 29 AREF, 30 PA7, 31 PA6, 32 PA5, 33 PA4, 34 PA3, 35 PA2, 36 PA1, 37 PA0, 38 VCC_3 (power), 39 GND_3, 40 PB0, 41 PB1, 42 PB2, 43 PB3, 44 PB4

## ATMEGA32L-8MU
designator U?, comment 8-bit Microcontroller with In-System Programmable Flash
MPN: ATMEGA32L-8MU; OC_FARNELL: 1455113; OC_NEWARK: 58M3734; PACKAGE: QFN-44; SUPPLIER: Atmel
footprint QFN50P700X700X100-45N
pins: 1 PB5, 2 PB6, 3 PB7, 4 ~RESET, 5 VCC_2 (power), 6 GND_2, 7 XTAL2 (out), 8 XTAL1, 9 PD0, 10 PD1, 11 PD2, 12 PD3, 13 PD4, 14 PD5, 15 PD6, 16 PD7, 17 VCC_3 (power), 18 GND, 19 PC0, 20 PC1, 21 PC2, 22 PC3, 23 PC4, 24 PC5, 25 PC6, 26 PC7, 27 AVCC (power), 28 GND_3, 29 AREF, 30 PA7, 31 PA6, 32 PA5, 33 PA4, 34 PA3, 35 PA2, 36 PA1, 37 PA0, 38 VCC (power), 39 GND_4, 40 PB0, 41 PB1, 42 PB2, 43 PB3, 44 PB4, 45 EP

## ATMEGA32U2-AU
designator U?, comment 8-bit Microcontroller with ISP Flash and USB Controller
MPN: ATMEGA32U2-AU; OC_FARNELL: 1748524; OC_NEWARK: 26R5632; PACKAGE: TQFP-32; SUPPLIER: Atmel
footprint QFP80P900X900X120-32N
pins: 1 XTAL1, 2 (PC0)_XTAL2, 3 GND, 4 VCC (power), 5 PC2, 6 PD0, 7 PD1, 8 PD2, 9 PD3, 10 PD4, 11 PD5, 12 PD6, 13 PD7, 14 PB0, 15 PB1, 16 PB2, 17 PB3, 18 PB4, 19 PB5, 20 PB6, 21 PB7, 22 PC7, 23 PC6, 24 ~RESET_(PC1_/_DW), 25 PC5, 26 PC4, 27 UCAP (power), 28 UGND, 29 D+, 30 D-, 31 UVCC (power), 32 AVCC (power)

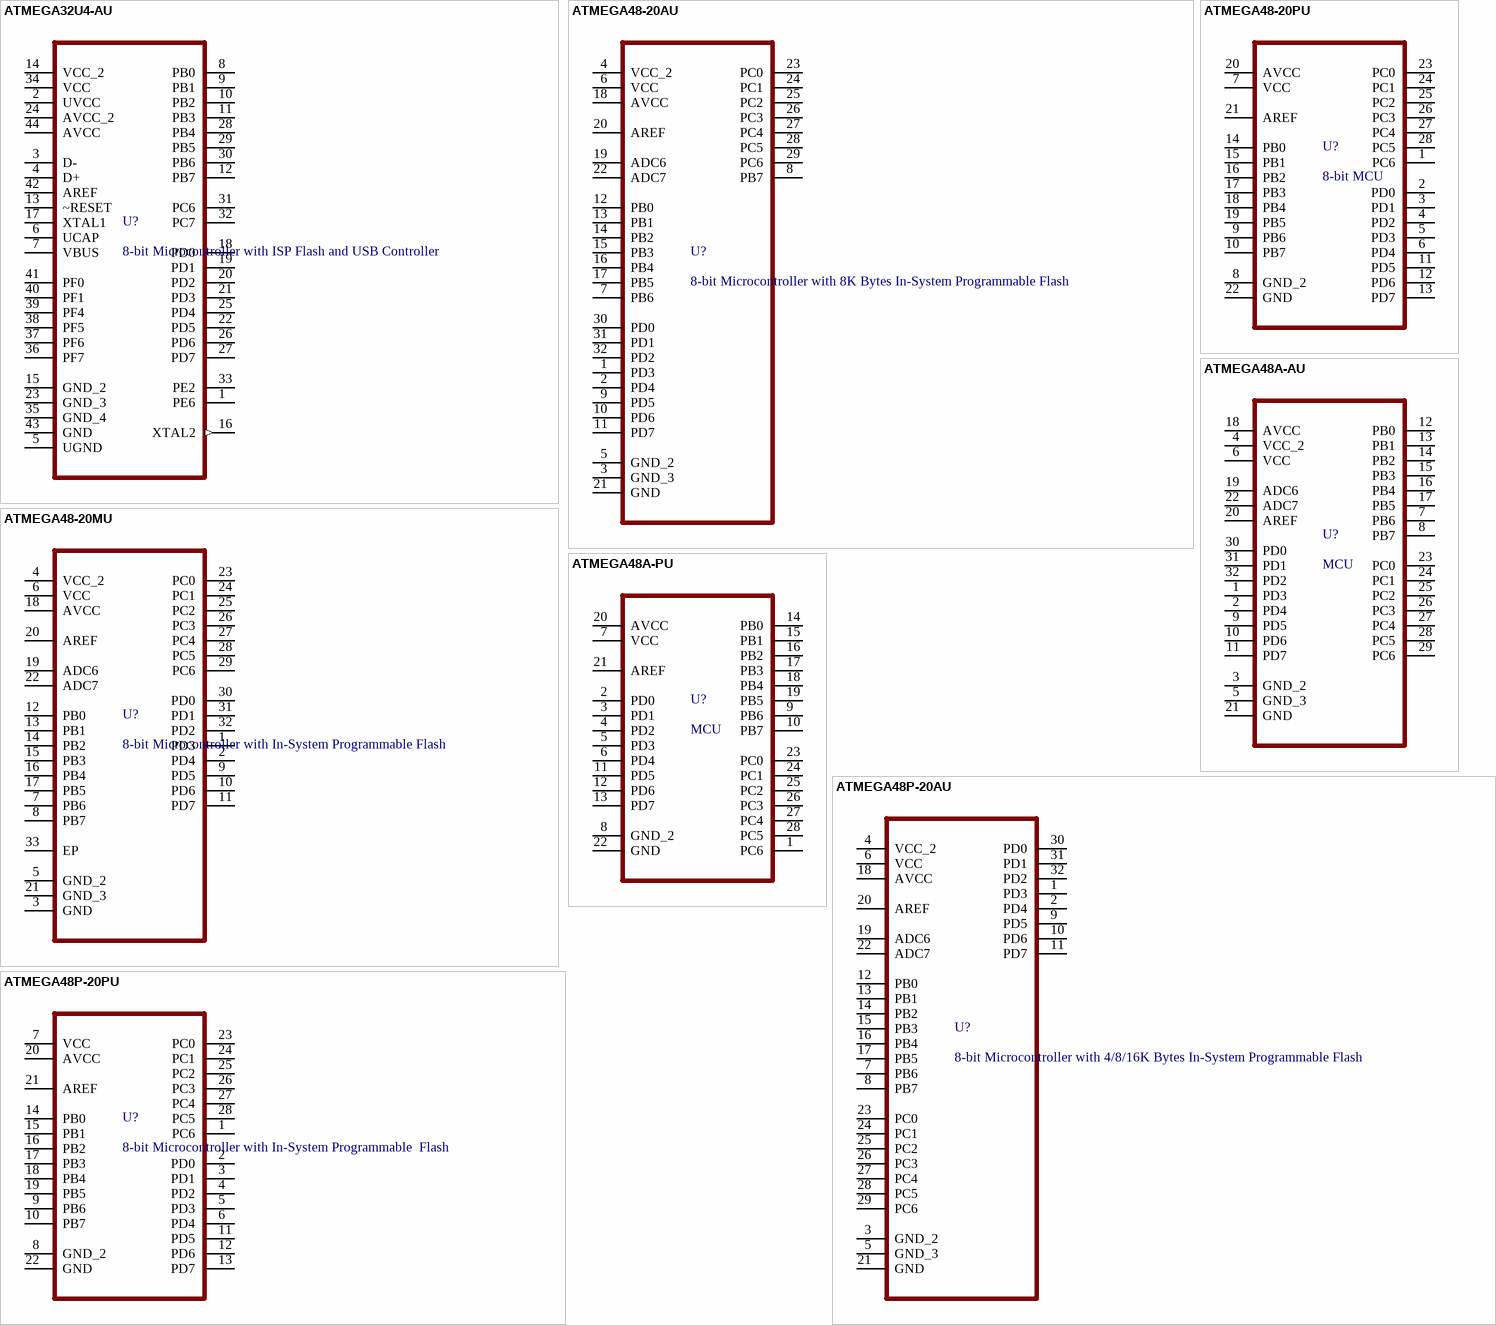
[diagram p18: symbols ATMEGA32U4-AU to ATMEGA48P-20PU]

## ATMEGA32U4-AU
designator U?, comment 8-bit Microcontroller with ISP Flash and USB Controller
MPN: ATMEGA32U4-AU; OC_FARNELL: 1748525; OC_NEWARK: 26R5633; PACKAGE: TQFP-44; SUPPLIER: Atmel
footprint QFP80P1200X1200X120-44N
pins: 1 PE6, 2 UVCC (power), 3 D-, 4 D+, 5 UGND, 6 UCAP (power), 7 VBUS, 8 PB0, 9 PB1, 10 PB2, 11 PB3, 12 PB7, 13 ~RESET, 14 VCC_2 (power), 15 GND_2, 16 XTAL2 (out), 17 XTAL1, 18 PD0, 19 PD1, 20 PD2, 21 PD3, 22 PD5, 23 GND_3, 24 AVCC_2 (power), 25 PD4, 26 PD6, 27 PD7, 28 PB4, 29 PB5, 30 PB6, 31 PC6, 32 PC7, 33 PE2, 34 VCC (power), 35 GND_4, 36 PF7, 37 PF6, 38 PF5, 39 PF4, 40 PF1, 41 PF0, 42 AREF, 43 GND, 44 AVCC (power)

## ATMEGA48-20AU
designator U?, comment 8-bit Microcontroller with 8K Bytes In-System Programmable Flash
MPN: ATMEGA48-20AU; OC_FARNELL: 9171312; OC_NEWARK: 68T2999; PACKAGE: TQFP-32; SUPPLIER: Atmel
footprint QFP80P900X900X120-32N
pins: 1 PD3, 2 PD4, 3 GND_3, 4 VCC_2 (power), 5 GND_2, 6 VCC (power), 7 PB6, 8 PB7, 9 PD5, 10 PD6, 11 PD7, 12 PB0, 13 PB1, 14 PB2, 15 PB3, 16 PB4, 17 PB5, 18 AVCC (power), 19 ADC6, 20 AREF, 21 GND, 22 ADC7, 23 PC0, 24 PC1, 25 PC2, 26 PC3, 27 PC4, 28 PC5, 29 PC6, 30 PD0, 31 PD1, 32 PD2

## ATMEGA48-20MU
designator U?, comment 8-bit Microcontroller with In-System Programmable Flash
MPN: ATMEGA48-20MU; OC_FARNELL: 1455116; OC_NEWARK: 58M3740; PACKAGE: QFN-32; SUPPLIER: Atmel
footprint QFN50P500X500X100-33N
pins: 1 PD3, 2 PD4, 3 GND, 4 VCC_2 (power), 5 GND_2, 6 VCC (power), 7 PB6, 8 PB7, 9 PD5, 10 PD6, 11 PD7, 12 PB0, 13 PB1, 14 PB2, 15 PB3, 16 PB4, 17 PB5, 18 AVCC (power), 19 ADC6, 20 AREF, 21 GND_3, 22 ADC7, 23 PC0, 24 PC1, 25 PC2, 26 PC3, 27 PC4, 28 PC5, 29 PC6, 30 PD0, 31 PD1, 32 PD2, 33 EP

## ATMEGA48-20PU
designator U?, comment 8-bit MCU
MPN: ATMEGA48-20PU; OC_FARNELL: 9171320; OC_NEWARK: 96K6518; PACKAGE: DIP-28; SUPPLIER: Atmel
footprint DIP254P762X457-28
pins: 1 PC6, 2 PD0, 3 PD1, 4 PD2, 5 PD3, 6 PD4, 7 VCC (power), 8 GND_2, 9 PB6, 10 PB7, 11 PD5, 12 PD6, 13 PD7, 14 PB0, 15 PB1, 16 PB2, 17 PB3, 18 PB4, 19 PB5, 20 AVCC (power), 21 AREF, 22 GND, 23 PC0, 24 PC1, 25 PC2, 26 PC3, 27 PC4, 28 PC5

## ATMEGA48A-AU
designator U?, comment MCU
MPN: ATMEGA48A-AU; OC_FARNELL: 1841612; OC_NEWARK: 12T1301; PACKAGE: QFP-32; SUPPLIER: Atmel
footprint QFP80P900X900X120-32N
pins: 1 PD3, 2 PD4, 3 GND_2, 4 VCC_2 (power), 5 GND_3, 6 VCC (power), 7 PB6, 8 PB7, 9 PD5, 10 PD6, 11 PD7, 12 PB0, 13 PB1, 14 PB2, 15 PB3, 16 PB4, 17 PB5, 18 AVCC (power), 19 ADC6, 20 AREF, 21 GND, 22 ADC7, 23 PC0, 24 PC1, 25 PC2, 26 PC3, 27 PC4, 28 PC5, 29 PC6, 30 PD0, 31 PD1, 32 PD2

## ATMEGA48A-PU
designator U?, comment MCU
MPN: ATMEGA48A-PU; OC_FARNELL: 1841613; OC_NEWARK: 12T1302; PACKAGE: DIP-28; SUPPLIER: Atmel
footprint DIP254P762X457-28
pins: 1 PC6, 2 PD0, 3 PD1, 4 PD2, 5 PD3, 6 PD4, 7 VCC (power), 8 GND_2, 9 PB6, 10 PB7, 11 PD5, 12 PD6, 13 PD7, 14 PB0, 15 PB1, 16 PB2, 17 PB3, 18 PB4, 19 PB5, 20 AVCC (power), 21 AREF, 22 GND, 23 PC0, 24 PC1, 25 PC2, 26 PC3, 27 PC4, 28 PC5

## ATMEGA48P-20AU
designator U?, comment 8-bit Microcontroller with 4/8/16K Bytes In-System Programmable Flash
MPN: ATMEGA48P-20AU; OC_FARNELL: 1636941; OC_NEWARK: 03P2028; PACKAGE: TQFP-32; SUPPLIER: Atmel
footprint QFP80P900X900X120-32N
pins: 1 PD3, 2 PD4, 3 GND_2, 4 VCC_2 (power), 5 GND_3, 6 VCC (power), 7 PB6, 8 PB7, 9 PD5, 10 PD6, 11 PD7, 12 PB0, 13 PB1, 14 PB2, 15 PB3, 16 PB4, 17 PB5, 18 AVCC (power), 19 ADC6, 20 AREF, 21 GND, 22 ADC7, 23 PC0, 24 PC1, 25 PC2, 26 PC3, 27 PC4, 28 PC5, 29 PC6, 30 PD0, 31 PD1, 32 PD2

## ATMEGA48P-20PU
designator U?, comment 8-bit Microcontroller with In-System Programmable  Flash
MPN: ATMEGA48P-20PU; OC_FARNELL: 1636942; OC_NEWARK: 03P2029; PACKAGE: PDIP-24; SUPPLIER: Atmel
footprint DIP254P762X457-28
pins: 1 PC6, 2 PD0, 3 PD1, 4 PD2, 5 PD3, 6 PD4, 7 VCC (power), 8 GND_2, 9 PB6, 10 PB7, 11 PD5, 12 PD6, 13 PD7, 14 PB0, 15 PB1, 16 PB2, 17 PB3, 18 PB4, 19 PB5, 20 AVCC (power), 21 AREF, 22 GND, 23 PC0, 24 PC1, 25 PC2, 26 PC3, 27 PC4, 28 PC5

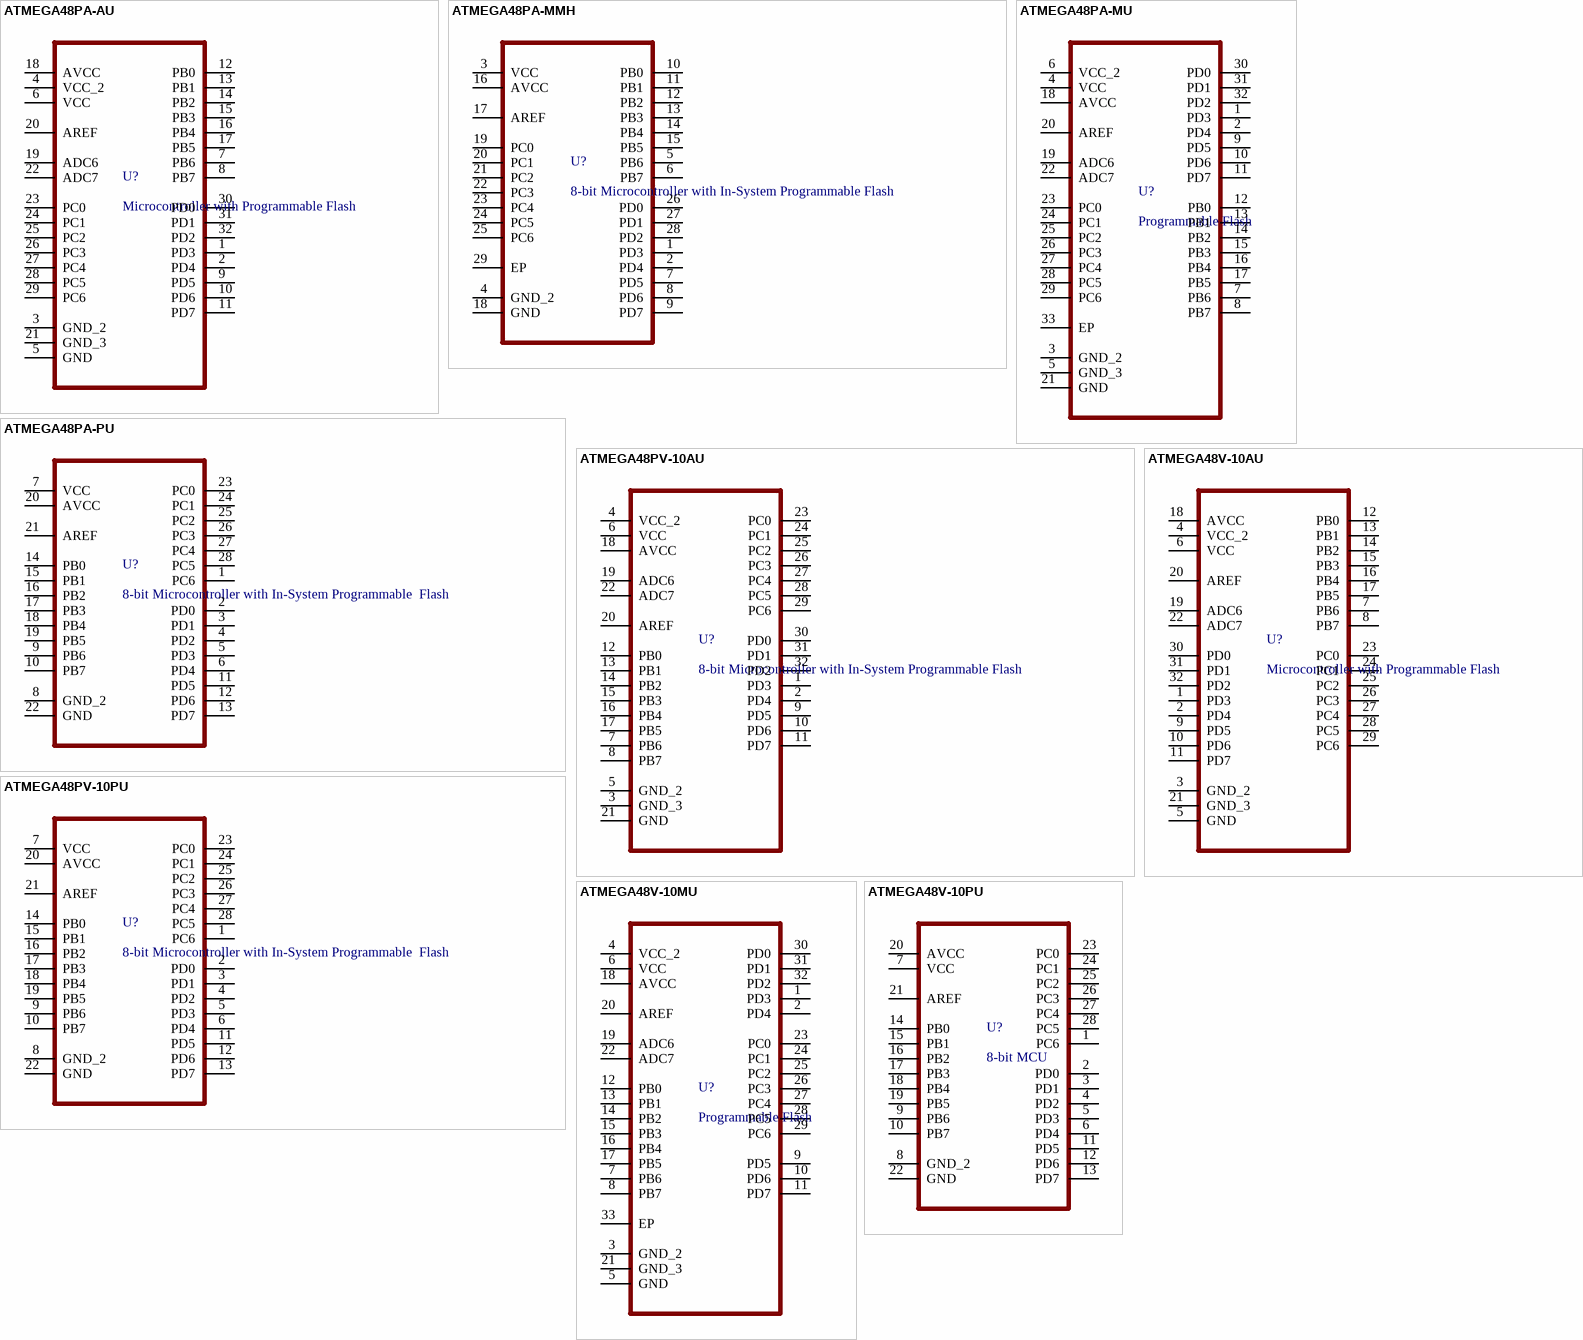
[diagram p19: symbols ATMEGA48PA-AU to ATMEGA48V-10PU]

## ATMEGA48PA-AU
designator U?, comment Microcontroller with Programmable Flash
MPN: ATMEGA48PA-AU; OC_FARNELL: 1715488; OC_NEWARK: 15R0269; PACKAGE: TQFP-32; SUPPLIER: Atmel
footprint QFP80P900X900X120-32N
pins: 1 PD3, 2 PD4, 3 GND_2, 4 VCC_2 (power), 5 GND, 6 VCC (power), 7 PB6, 8 PB7, 9 PD5, 10 PD6, 11 PD7, 12 PB0, 13 PB1, 14 PB2, 15 PB3, 16 PB4, 17 PB5, 18 AVCC (power), 19 ADC6, 20 AREF, 21 GND_3, 22 ADC7, 23 PC0, 24 PC1, 25 PC2, 26 PC3, 27 PC4, 28 PC5, 29 PC6, 30 PD0, 31 PD1, 32 PD2

## ATMEGA48PA-MMH
designator U?, comment 8-bit Microcontroller with In-System Programmable Flash
MPN: ATMEGA48PA-MMH; OC_FARNELL: 1748526; OC_NEWARK: 26R5634; PACKAGE: QFN-28; SUPPLIER: Atmel
footprint QFN45P400X400X100-29N
pins: 1 PD3, 2 PD4, 3 VCC (power), 4 GND_2, 5 PB6, 6 PB7, 7 PD5, 8 PD6, 9 PD7, 10 PB0, 11 PB1, 12 PB2, 13 PB3, 14 PB4, 15 PB5, 16 AVCC (power), 17 AREF, 18 GND, 19 PC0, 20 PC1, 21 PC2, 22 PC3, 23 PC4, 24 PC5, 25 PC6, 26 PD0, 27 PD1, 28 PD2, 29 EP

## ATMEGA48PA-MU
designator U?, comment Programmable Flash
MPN: ATMEGA48PA-MU; OC_FARNELL: 1748527; OC_NEWARK: 26R5635; PACKAGE: QFN-32; SUPPLIER: Atmel
footprint QFN50P500X500X100-33N
pins: 1 PD3, 2 PD4, 3 GND_2, 4 VCC (power), 5 GND_3, 6 VCC_2 (power), 7 PB6, 8 PB7, 9 PD5, 10 PD6, 11 PD7, 12 PB0, 13 PB1, 14 PB2, 15 PB3, 16 PB4, 17 PB5, 18 AVCC (power), 19 ADC6, 20 AREF, 21 GND, 22 ADC7, 23 PC0, 24 PC1, 25 PC2, 26 PC3, 27 PC4, 28 PC5, 29 PC6, 30 PD0, 31 PD1, 32 PD2, 33 EP

## ATMEGA48PA-PU
designator U?, comment 8-bit Microcontroller with In-System Programmable  Flash
MPN: ATMEGA48PA-PU; OC_FARNELL: 1715489; OC_NEWARK: 15R0270; PACKAGE: PDIP-28; SUPPLIER: Atmel
footprint DIP254P762X457-28
pins: 1 PC6, 2 PD0, 3 PD1, 4 PD2, 5 PD3, 6 PD4, 7 VCC (power), 8 GND_2, 9 PB6, 10 PB7, 11 PD5, 12 PD6, 13 PD7, 14 PB0, 15 PB1, 16 PB2, 17 PB3, 18 PB4, 19 PB5, 20 AVCC (power), 21 AREF, 22 GND, 23 PC0, 24 PC1, 25 PC2, 26 PC3, 27 PC4, 28 PC5

## ATMEGA48PV-10AU
designator U?, comment 8-bit Microcontroller with In-System Programmable Flash
MPN: ATMEGA48PV-10AU; OC_FARNELL: 1636943; OC_NEWARK: 03P2030; PACKAGE: TQFP-32; SUPPLIER: Atmel
footprint QFP80P900X900X120-32N
pins: 1 PD3, 2 PD4, 3 GND_3, 4 VCC_2 (power), 5 GND_2, 6 VCC (power), 7 PB6, 8 PB7, 9 PD5, 10 PD6, 11 PD7, 12 PB0, 13 PB1, 14 PB2, 15 PB3, 16 PB4, 17 PB5, 18 AVCC (power), 19 ADC6, 20 AREF, 21 GND, 22 ADC7, 23 PC0, 24 PC1, 25 PC2, 26 PC3, 27 PC4, 28 PC5, 29 PC6, 30 PD0, 31 PD1, 32 PD2

## ATMEGA48PV-10PU
designator U?, comment 8-bit Microcontroller with In-System Programmable  Flash
MPN: ATMEGA48PV-10PU; OC_FARNELL: 1636944; OC_NEWARK: 03P2031; PACKAGE: PDIP-24; SUPPLIER: Atmel
footprint DIP254P762X457-28
pins: 1 PC6, 2 PD0, 3 PD1, 4 PD2, 5 PD3, 6 PD4, 7 VCC (power), 8 GND_2, 9 PB6, 10 PB7, 11 PD5, 12 PD6, 13 PD7, 14 PB0, 15 PB1, 16 PB2, 17 PB3, 18 PB4, 19 PB5, 20 AVCC (power), 21 AREF, 22 GND, 23 PC0, 24 PC1, 25 PC2, 26 PC3, 27 PC4, 28 PC5

## ATMEGA48V-10AU
designator U?, comment Microcontroller with Programmable Flash
MPN: ATMEGA48V-10AU; OC_FARNELL: 9171339; OC_NEWARK: 96K6519; PACKAGE: TQFP-32; SUPPLIER: Atmel
footprint QFP80P900X900X120-32N
pins: 1 PD3, 2 PD4, 3 GND_2, 4 VCC_2 (power), 5 GND, 6 VCC (power), 7 PB6, 8 PB7, 9 PD5, 10 PD6, 11 PD7, 12 PB0, 13 PB1, 14 PB2, 15 PB3, 16 PB4, 17 PB5, 18 AVCC (power), 19 ADC6, 20 AREF, 21 GND_3, 22 ADC7, 23 PC0, 24 PC1, 25 PC2, 26 PC3, 27 PC4, 28 PC5, 29 PC6, 30 PD0, 31 PD1, 32 PD2

## ATMEGA48V-10MU
designator U?, comment Programmable Flash
MPN: ATMEGA48V-10MU; OC_FARNELL: 1455117; OC_NEWARK: 58M3741; PACKAGE: QFN-32; SUPPLIER: Atmel
footprint QFN50P500X500X100-33N
pins: 1 PD3, 2 PD4, 3 GND_2, 4 VCC_2 (power), 5 GND, 6 VCC (power), 7 PB6, 8 PB7, 9 PD5, 10 PD6, 11 PD7, 12 PB0, 13 PB1, 14 PB2, 15 PB3, 16 PB4, 17 PB5, 18 AVCC (power), 19 ADC6, 20 AREF, 21 GND_3, 22 ADC7, 23 PC0, 24 PC1, 25 PC2, 26 PC3, 27 PC4, 28 PC5, 29 PC6, 30 PD0, 31 PD1, 32 PD2, 33 EP

## ATMEGA48V-10PU
designator U?, comment 8-bit MCU
MPN: ATMEGA48V-10PU; OC_FARNELL: 9171347; OC_NEWARK: 96K6520; PACKAGE: DIP-28; SUPPLIER: Atmel
footprint DIP254P762X457-28
pins: 1 PC6, 2 PD0, 3 PD1, 4 PD2, 5 PD3, 6 PD4, 7 VCC (power), 8 GND_2, 9 PB6, 10 PB7, 11 PD5, 12 PD6, 13 PD7, 14 PB0, 15 PB1, 16 PB2, 17 PB3, 18 PB4, 19 PB5, 20 AVCC (power), 21 AREF, 22 GND, 23 PC0, 24 PC1, 25 PC2, 26 PC3, 27 PC4, 28 PC5

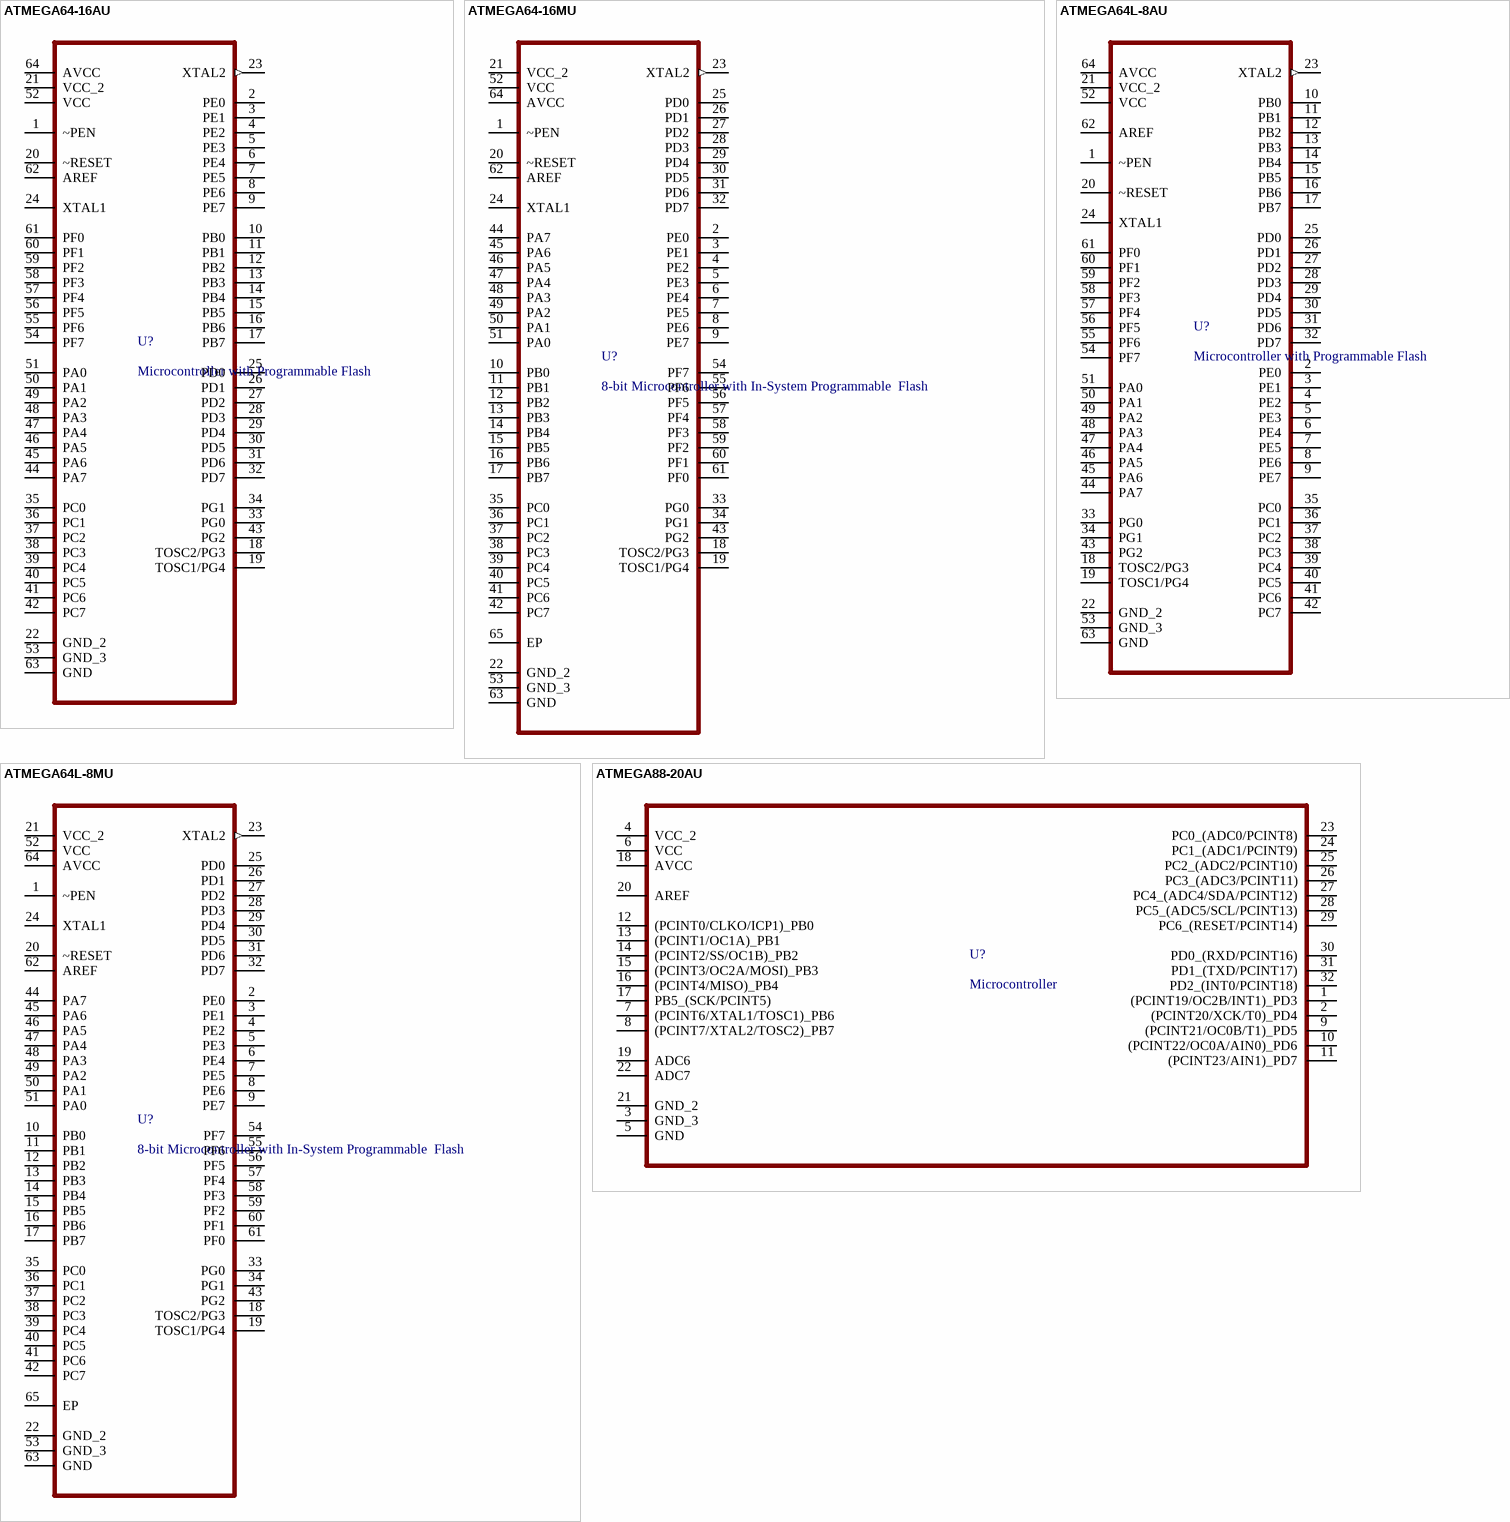
[diagram p20: symbols ATMEGA64-16AU to ATMEGA88-20AU]

## ATMEGA64-16AU
designator U?, comment Microcontroller with Programmable Flash
MPN: ATMEGA64-16AU; OC_FARNELL: 9171355; OC_NEWARK: 01M6899; PACKAGE: TQFP-64; SUPPLIER: Atmel
footprint QFP80P1600X1600X120-64N
pins: 1 ~PEN, 2 PE0, 3 PE1, 4 PE2, 5 PE3, 6 PE4, 7 PE5, 8 PE6, 9 PE7, 10 PB0, 11 PB1, 12 PB2, 13 PB3, 14 PB4, 15 PB5, 16 PB6, 17 PB7, 18 TOSC2/PG3, 19 TOSC1/PG4, 20 ~RESET, 21 VCC_2 (power), 22 GND_2, 23 XTAL2 (out), 24 XTAL1, 25 PD0, 26 PD1, 27 PD2, 28 PD3, 29 PD4, 30 PD5, 31 PD6, 32 PD7, 33 PG0, 34 PG1, 35 PC0, 36 PC1, 37 PC2, 38 PC3, 39 PC4, 40 PC5, 41 PC6, 42 PC7, 43 PG2, 44 PA7, 45 PA6, 46 PA5, 47 PA4, 48 PA3, 49 PA2, 50 PA1, 51 PA0, 52 VCC (power), 53 GND_3, 54 PF7, 55 PF6, 56 PF5, 57 PF4, 58 PF3, 59 PF2, 60 PF1, 61 PF0, 62 AREF, 63 GND, 64 AVCC (power)